# Altium integrated library Xilinx Spartan-II.IntLib: 120 symbols (part 6 of 14)
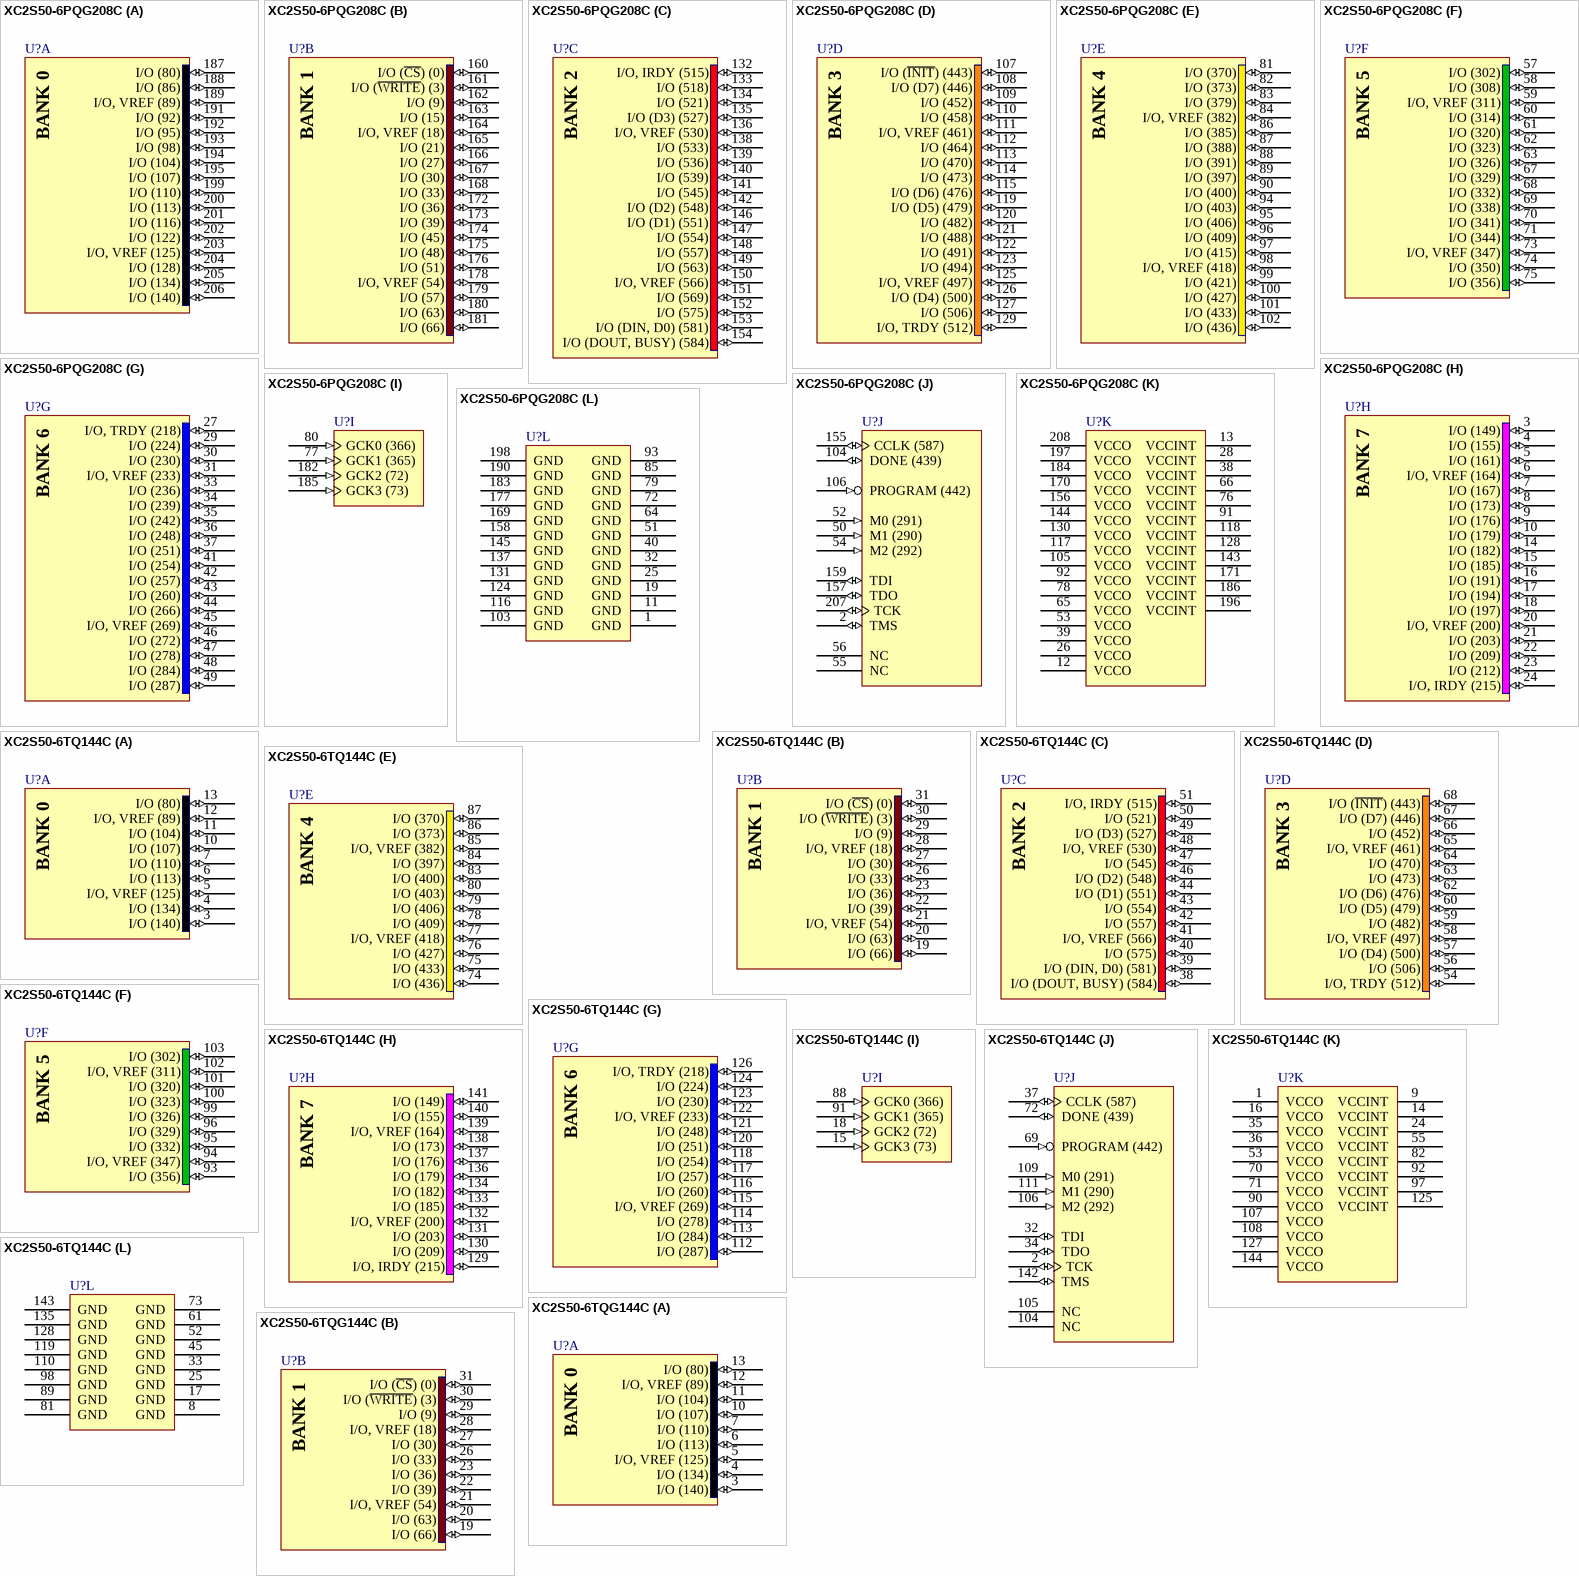
[diagram p76: symbols XC2S50-6PQG208C to XC2S50-6TQG144C]

## XC2S50-6PQG208C
designator U?
Spartan-II 2.5V FPGA, 140 User I/Os, 208-Pin PQFP, Higher Performance, Commercial Grade, Pb-Free; DatasheetVersion: ver2.8, Jun-2008; PackageVersion: ver1.2, Jun-2004; PackageReference: PQG208; PackageDescription: 208-Pin Plastic Quad Flat Pack (PQG208) - Pb-Free; Code_JEDEC: MS-029-FA-1; ComponentLink1Description: Manufacturer URL; ComponentLink1URL: http://www.xilinx.com/; ComponentLink2Description: Spartan-II Datasheet; ComponentLink2URL: http://www.xilinx.com/support/documentation/data_sheets/ds001.pdf; ComponentLink3Description: PQG208 Package Drawing; ComponentLink3URL: http://www.xilinx.com/support/documentation/package_specs/pq208.pdf; ComponentLink4Description: Spartan-II Documents; ComponentLink4URL: http://www.xilinx.com/support/documentation/spartan-ii.htm
footprint PQG208_N (Shrink QFP, 208-Leads, Body 28x28mm, Pitch 0.5mm, IPC Medium Density)
footprint PQG208_L (Shrink QFP, 208-Leads, Body 28x28mm, Pitch 0.5mm, IPC High Density)
footprint PQG208_M (Shrink QFP, 208-Leads, Body 28x28mm, Pitch 0.5mm, IPC Low Density)
part A pins: 187 I/O (80) (io), 188 I/O (86) (io), 189 I/O, VREF (89) (io), 191 I/O (92) (io), 192 I/O (95) (io), 193 I/O (98) (io), 194 I/O (104) (io), 195 I/O (107) (io), 199 I/O (110) (io), 200 I/O (113) (io), 201 I/O (116) (io), 202 I/O (122) (io), 203 I/O, VREF (125) (io), 204 I/O (128) (io), 205 I/O (134) (io), 206 I/O (140) (io)
part B pins: 160 I/O (~{CS}) (0) (io), 161 I/O (~{WRITE}) (3) (io), 162 I/O (9) (io), 163 I/O (15) (io), 164 I/O, VREF (18) (io), 165 I/O (21) (io), 166 I/O (27) (io), 167 I/O (30) (io), 168 I/O (33) (io), 172 I/O (36) (io), 173 I/O (39) (io), 174 I/O (45) (io), 175 I/O (48) (io), 176 I/O (51) (io), 178 I/O, VREF (54) (io), 179 I/O (57) (io), 180 I/O (63) (io), 181 I/O (66) (io)
part C pins: 132 I/O, IRDY (515) (io), 133 I/O (518) (io), 134 I/O (521) (io), 135 I/O (D3) (527) (io), 136 I/O, VREF (530) (io), 138 I/O (533) (io), 139 I/O (536) (io), 140 I/O (539) (io), 141 I/O (545) (io), 142 I/O (D2) (548) (io), 146 I/O (D1) (551) (io), 147 I/O (554) (io), 148 I/O (557) (io), 149 I/O (563) (io), 150 I/O, VREF (566) (io), 151 I/O (569) (io), 152 I/O (575) (io), 153 I/O (DIN, D0) (581) (io), 154 I/O (DOUT, BUSY) (584) (io)
part D pins: 107 I/O (~{INIT}) (443) (io), 108 I/O (D7) (446) (io), 109 I/O (452) (io), 110 I/O (458) (io), 111 I/O, VREF (461) (io), 112 I/O (464) (io), 113 I/O (470) (io), 114 I/O (473) (io), 115 I/O (D6) (476) (io), 119 I/O (D5) (479) (io), 120 I/O (482) (io), 121 I/O (488) (io), 122 I/O (491) (io), 123 I/O (494) (io), 125 I/O, VREF (497) (io), 126 I/O (D4) (500) (io), 127 I/O (506) (io), 129 I/O, TRDY (512) (io)
part E pins: 81 I/O (370) (io), 82 I/O (373) (io), 83 I/O (379) (io), 84 I/O, VREF (382) (io), 86 I/O (385) (io), 87 I/O (388) (io), 88 I/O (391) (io), 89 I/O (397) (io), 90 I/O (400) (io), 94 I/O (403) (io), 95 I/O (406) (io), 96 I/O (409) (io), 97 I/O (415) (io), 98 I/O, VREF (418) (io), 99 I/O (421) (io), 100 I/O (427) (io), 101 I/O (433) (io), 102 I/O (436) (io)
part F pins: 57 I/O (302) (io), 58 I/O (308) (io), 59 I/O, VREF (311) (io), 60 I/O (314) (io), 61 I/O (320) (io), 62 I/O (323) (io), 63 I/O (326) (io), 67 I/O (329) (io), 68 I/O (332) (io), 69 I/O (338) (io), 70 I/O (341) (io), 71 I/O (344) (io), 73 I/O, VREF (347) (io), 74 I/O (350) (io), 75 I/O (356) (io)
part G pins: 27 I/O, TRDY (218) (io), 29 I/O (224) (io), 30 I/O (230) (io), 31 I/O, VREF (233) (io), 33 I/O (236) (io), 34 I/O (239) (io), 35 I/O (242) (io), 36 I/O (248) (io), 37 I/O (251) (io), 41 I/O (254) (io), 42 I/O (257) (io), 43 I/O (260) (io), 44 I/O (266) (io), 45 I/O, VREF (269) (io), 46 I/O (272) (io), 47 I/O (278) (io), 48 I/O (284) (io), 49 I/O (287) (io)
part H pins: 3 I/O (149) (io), 4 I/O (155) (io), 5 I/O (161) (io), 6 I/O, VREF (164) (io), 7 I/O (167) (io), 8 I/O (173) (io), 9 I/O (176) (io), 10 I/O (179) (io), 14 I/O (182) (io), 15 I/O (185) (io), 16 I/O (191) (io), 17 I/O (194) (io), 18 I/O (197) (io), 20 I/O, VREF (200) (io), 21 I/O (203) (io), 22 I/O (209) (io), 23 I/O (212) (io), 24 I/O, IRDY (215) (io)
part I pins: 77 GCK1 (365) (in), 80 GCK0 (366) (in), 182 GCK2 (72) (in), 185 GCK3 (73) (in)
part J pins: 2 TMS (io), 50 M1 (290) (in), 52 M0 (291) (in), 54 M2 (292) (in), 55 NC, 56 NC, 104 DONE (439) (io), 106 PROGRAM (442) (in), 155 CCLK (587) (io), 157 TDO (io), 159 TDI (io), 207 TCK (io)
part K pins: 12 VCCO (power), 13 VCCINT (power), 26 VCCO (power), 28 VCCINT (power), 38 VCCINT (power), 39 VCCO (power), 53 VCCO (power), 65 VCCO (power), 66 VCCINT (power), 76 VCCINT (power), 78 VCCO (power), 91 VCCINT (power), 92 VCCO (power), 105 VCCO (power), 117 VCCO (power), 118 VCCINT (power), 128 VCCINT (power), 130 VCCO (power), 143 VCCINT (power), 144 VCCO (power), 156 VCCO (power), 170 VCCO (power), 171 VCCINT (power), 184 VCCO (power), 186 VCCINT (power), 196 VCCINT (power), 197 VCCO (power), 208 VCCO (power)
part L pins: 1 GND (power), 11 GND (power), 19 GND (power), 25 GND (power), 32 GND (power), 40 GND (power), 51 GND (power), 64 GND (power), 72 GND (power), 79 GND (power), 85 GND (power), 93 GND (power), 103 GND (power), 116 GND (power), 124 GND (power), 131 GND (power), 137 GND (power), 145 GND (power), 158 GND (power), 169 GND (power), 177 GND (power), 183 GND (power), 190 GND (power), 198 GND (power)
part A text: BANK 0
part B text: BANK 1
part C text: BANK 2
part D text: BANK 3
part E text: BANK 4
part F text: BANK 5
part G text: BANK 6
part H text: BANK 7

## XC2S50-6TQ144C
designator U?
Spartan-II 2.5V FPGA, 92 User I/Os, 144-Pin TQFP, Higher Performance, Commercial Grade; DatasheetVersion: ver2.8, Jun-2008; PackageVersion: ver1.2, Jun-2004; PackageReference: TQ144; PackageDescription: 144-Pin Thin Quad Flat Pack (TQ144); Code_JEDEC: MS-026-BFB; ComponentLink1Description: Manufacturer URL; ComponentLink1URL: http://www.xilinx.com/; ComponentLink2Description: Spartan-II Datasheet; ComponentLink2URL: http://www.xilinx.com/support/documentation/data_sheets/ds001.pdf; ComponentLink3Description: TQ144 Package Drawing; ComponentLink3URL: http://www.xilinx.com/support/documentation/package_specs/tq144.pdf; ComponentLink4Description: Spartan-II Documents; ComponentLink4URL: http://www.xilinx.com/support/documentation/spartan-ii.htm
footprint TQ144_N (Thin QFP, 144-Leads, Body 20x20mm, Pitch 0.5mm, IPC Medium Density)
footprint TQ144_L (Thin QFP, 144-Leads, Body 20x20mm, Pitch 0.5mm, IPC High Density)
footprint TQ144_M (Thin QFP, 144-Leads, Body 20x20mm, Pitch 0.5mm, IPC Low Density)
part A pins: 3 I/O (140) (io), 4 I/O (134) (io), 5 I/O, VREF (125) (io), 6 I/O (113) (io), 7 I/O (110) (io), 10 I/O (107) (io), 11 I/O (104) (io), 12 I/O, VREF (89) (io), 13 I/O (80) (io)
part B pins: 19 I/O (66) (io), 20 I/O (63) (io), 21 I/O, VREF (54) (io), 22 I/O (39) (io), 23 I/O (36) (io), 26 I/O (33) (io), 27 I/O (30) (io), 28 I/O, VREF (18) (io), 29 I/O (9) (io), 30 I/O (~{WRITE}) (3) (io), 31 I/O (~{CS}) (0) (io)
part C pins: 38 I/O (DOUT, BUSY) (584) (io), 39 I/O (DIN, D0) (581) (io), 40 I/O (575) (io), 41 I/O, VREF (566) (io), 42 I/O (557) (io), 43 I/O (554) (io), 44 I/O (D1) (551) (io), 46 I/O (D2) (548) (io), 47 I/O (545) (io), 48 I/O, VREF (530) (io), 49 I/O (D3) (527) (io), 50 I/O (521) (io), 51 I/O, IRDY (515) (io)
part D pins: 54 I/O, TRDY (512) (io), 56 I/O (506) (io), 57 I/O (D4) (500) (io), 58 I/O, VREF (497) (io), 59 I/O (482) (io), 60 I/O (D5) (479) (io), 62 I/O (D6) (476) (io), 63 I/O (473) (io), 64 I/O (470) (io), 65 I/O, VREF (461) (io), 66 I/O (452) (io), 67 I/O (D7) (446) (io), 68 I/O (~{INIT}) (443) (io)
part E pins: 74 I/O (436) (io), 75 I/O (433) (io), 76 I/O (427) (io), 77 I/O, VREF (418) (io), 78 I/O (409) (io), 79 I/O (406) (io), 80 I/O (403) (io), 83 I/O (400) (io), 84 I/O (397) (io), 85 I/O, VREF (382) (io), 86 I/O (373) (io), 87 I/O (370) (io)
part F pins: 93 I/O (356) (io), 94 I/O, VREF (347) (io), 95 I/O (332) (io), 96 I/O (329) (io), 99 I/O (326) (io), 100 I/O (323) (io), 101 I/O (320) (io), 102 I/O, VREF (311) (io), 103 I/O (302) (io)
part G pins: 112 I/O (287) (io), 113 I/O (284) (io), 114 I/O (278) (io), 115 I/O, VREF (269) (io), 116 I/O (260) (io), 117 I/O (257) (io), 118 I/O (254) (io), 120 I/O (251) (io), 121 I/O (248) (io), 122 I/O, VREF (233) (io), 123 I/O (230) (io), 124 I/O (224) (io), 126 I/O, TRDY (218) (io)
part H pins: 129 I/O, IRDY (215) (io), 130 I/O (209) (io), 131 I/O (203) (io), 132 I/O, VREF (200) (io), 133 I/O (185) (io), 134 I/O (182) (io), 136 I/O (179) (io), 137 I/O (176) (io), 138 I/O (173) (io), 139 I/O, VREF (164) (io), 140 I/O (155) (io), 141 I/O (149) (io)
part I pins: 15 GCK3 (73) (in), 18 GCK2 (72) (in), 88 GCK0 (366) (in), 91 GCK1 (365) (in)
part J pins: 2 TCK (io), 32 TDI (io), 34 TDO (io), 37 CCLK (587) (io), 69 PROGRAM (442) (in), 72 DONE (439) (io), 104 NC, 105 NC, 106 M2 (292) (in), 109 M0 (291) (in), 111 M1 (290) (in), 142 TMS (io)
part K pins: 1 VCCO (power), 9 VCCINT (power), 14 VCCINT (power), 16 VCCO (power), 24 VCCINT (power), 35 VCCO (power), 36 VCCO (power), 53 VCCO (power), 55 VCCINT (power), 70 VCCO (power), 71 VCCO (power), 82 VCCINT (power), 90 VCCO (power), 92 VCCINT (power), 97 VCCINT (power), 107 VCCO (power), 108 VCCO (power), 125 VCCINT (power), 127 VCCO (power), 144 VCCO (power)
part L pins: 8 GND (power), 17 GND (power), 25 GND (power), 33 GND (power), 45 GND (power), 52 GND (power), 61 GND (power), 73 GND (power), 81 GND (power), 89 GND (power), 98 GND (power), 110 GND (power), 119 GND (power), 128 GND (power), 135 GND (power), 143 GND (power)
part A text: BANK 0
part B text: BANK 1
part C text: BANK 2
part D text: BANK 3
part E text: BANK 4
part F text: BANK 5
part G text: BANK 6
part H text: BANK 7

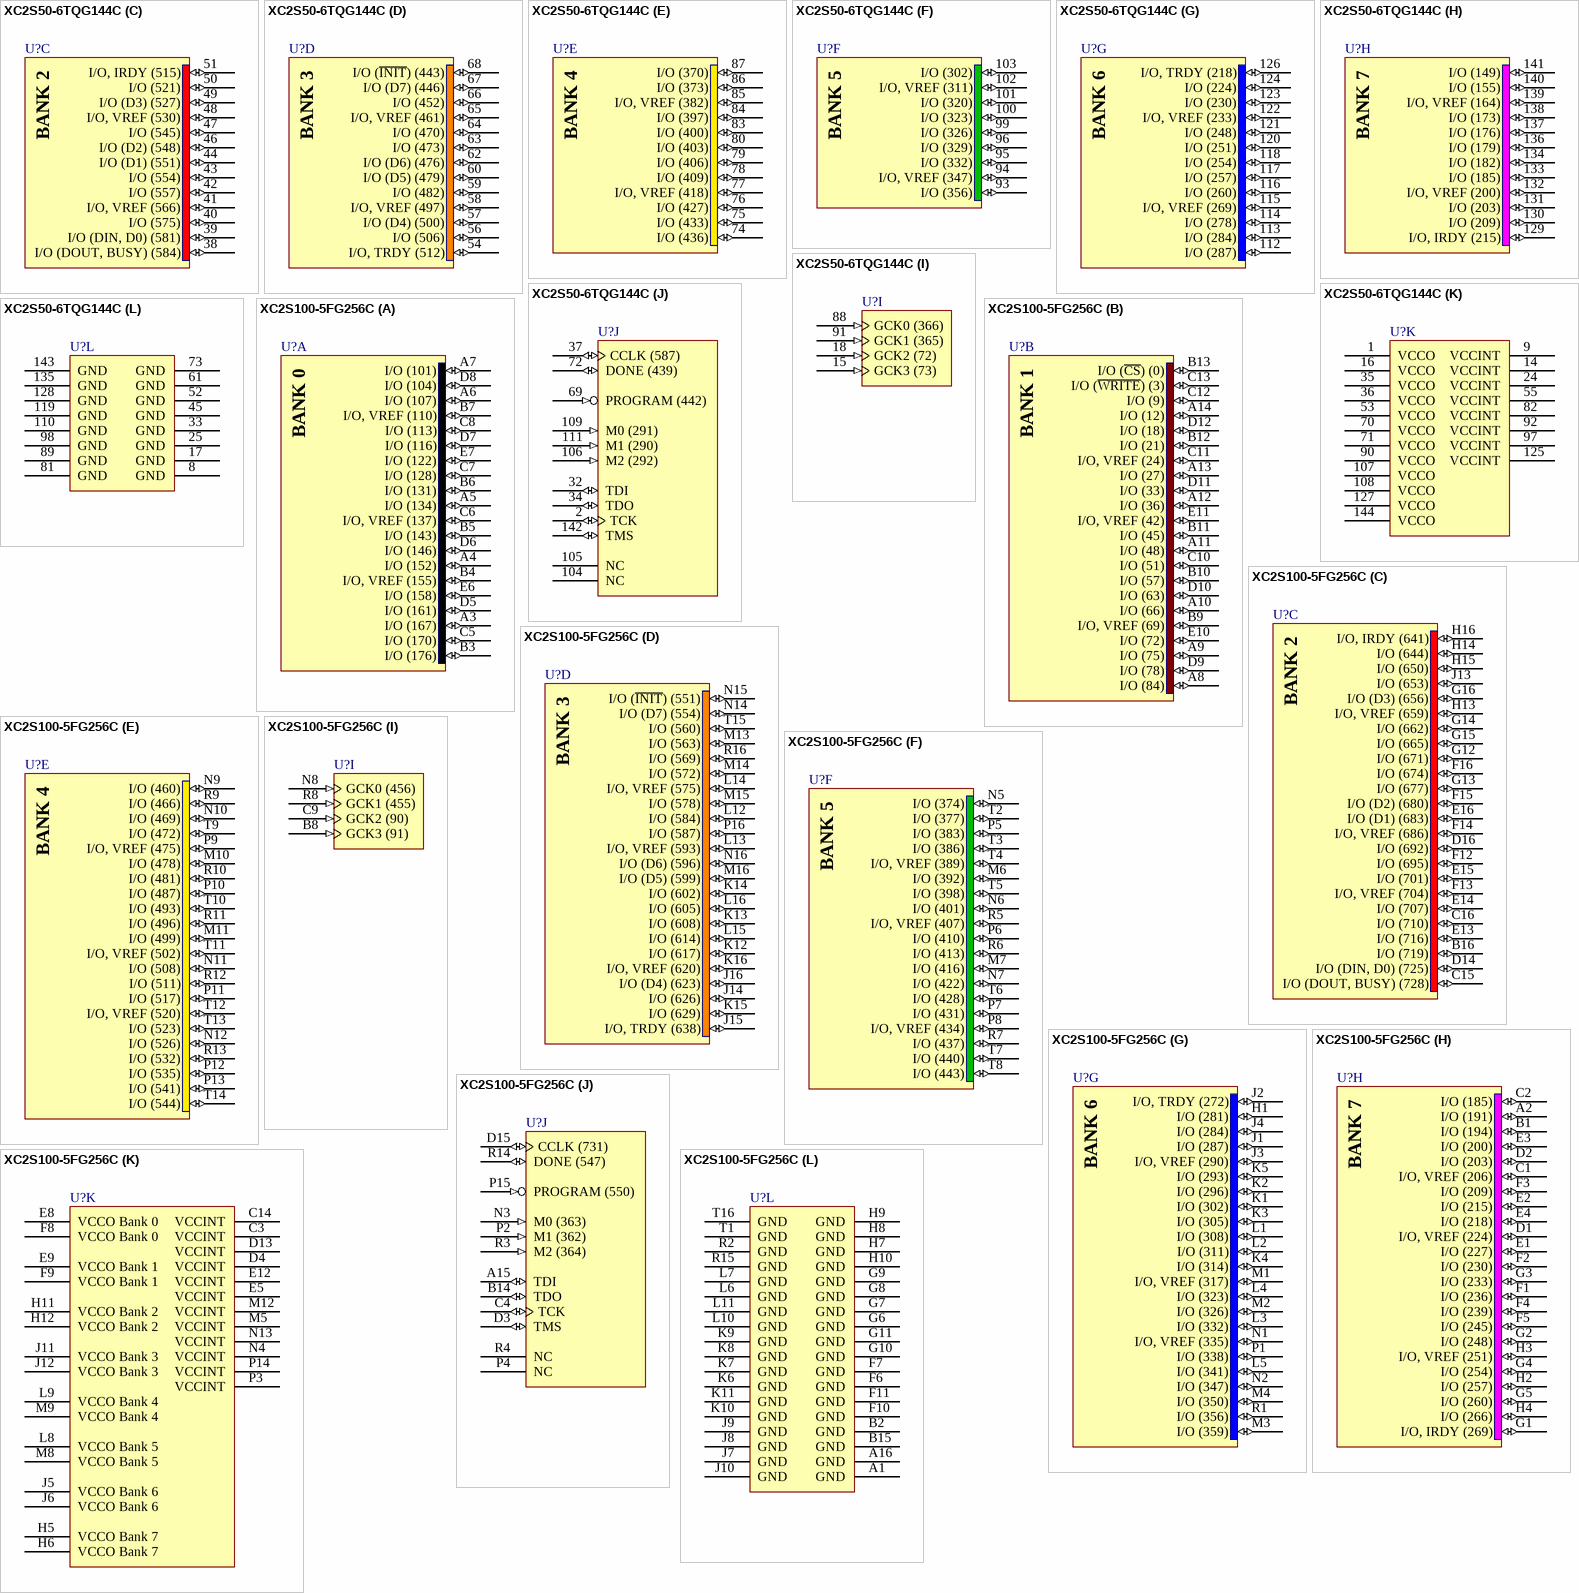
[diagram p27: symbols XC2S50-6TQG144C to XC2S100-5FG256C]

## XC2S50-6TQG144C
designator U?
Spartan-II 2.5V FPGA, 92 User I/Os, 144-Pin TQFP, Higher Performance, Commercial Grade, Pb-Free; DatasheetVersion: ver2.8, Jun-2008; PackageVersion: ver1.2, Jun-2004; PackageReference: TQG144; PackageDescription: 144-Pin Thin Quad Flat Pack (TQG144) - Pb-Free; Code_JEDEC: MS-026-BFB; ComponentLink1Description: Manufacturer URL; ComponentLink1URL: http://www.xilinx.com/; ComponentLink2Description: Spartan-II Datasheet; ComponentLink2URL: http://www.xilinx.com/support/documentation/data_sheets/ds001.pdf; ComponentLink3Description: TQG144 Package Drawing; ComponentLink3URL: http://www.xilinx.com/support/documentation/package_specs/tq144.pdf; ComponentLink4Description: Spartan-II Documents; ComponentLink4URL: http://www.xilinx.com/support/documentation/spartan-ii.htm
footprint TQG144_N (Thin QFP, 144-Leads, Body 20x20mm, Pitch 0.5mm, IPC Medium Density)
footprint TQG144_L (Thin QFP, 144-Leads, Body 20x20mm, Pitch 0.5mm, IPC High Density)
footprint TQG144_M (Thin QFP, 144-Leads, Body 20x20mm, Pitch 0.5mm, IPC Low Density)
part A pins: 3 I/O (140) (io), 4 I/O (134) (io), 5 I/O, VREF (125) (io), 6 I/O (113) (io), 7 I/O (110) (io), 10 I/O (107) (io), 11 I/O (104) (io), 12 I/O, VREF (89) (io), 13 I/O (80) (io)
part B pins: 19 I/O (66) (io), 20 I/O (63) (io), 21 I/O, VREF (54) (io), 22 I/O (39) (io), 23 I/O (36) (io), 26 I/O (33) (io), 27 I/O (30) (io), 28 I/O, VREF (18) (io), 29 I/O (9) (io), 30 I/O (~{WRITE}) (3) (io), 31 I/O (~{CS}) (0) (io)
part C pins: 38 I/O (DOUT, BUSY) (584) (io), 39 I/O (DIN, D0) (581) (io), 40 I/O (575) (io), 41 I/O, VREF (566) (io), 42 I/O (557) (io), 43 I/O (554) (io), 44 I/O (D1) (551) (io), 46 I/O (D2) (548) (io), 47 I/O (545) (io), 48 I/O, VREF (530) (io), 49 I/O (D3) (527) (io), 50 I/O (521) (io), 51 I/O, IRDY (515) (io)
part D pins: 54 I/O, TRDY (512) (io), 56 I/O (506) (io), 57 I/O (D4) (500) (io), 58 I/O, VREF (497) (io), 59 I/O (482) (io), 60 I/O (D5) (479) (io), 62 I/O (D6) (476) (io), 63 I/O (473) (io), 64 I/O (470) (io), 65 I/O, VREF (461) (io), 66 I/O (452) (io), 67 I/O (D7) (446) (io), 68 I/O (~{INIT}) (443) (io)
part E pins: 74 I/O (436) (io), 75 I/O (433) (io), 76 I/O (427) (io), 77 I/O, VREF (418) (io), 78 I/O (409) (io), 79 I/O (406) (io), 80 I/O (403) (io), 83 I/O (400) (io), 84 I/O (397) (io), 85 I/O, VREF (382) (io), 86 I/O (373) (io), 87 I/O (370) (io)
part F pins: 93 I/O (356) (io), 94 I/O, VREF (347) (io), 95 I/O (332) (io), 96 I/O (329) (io), 99 I/O (326) (io), 100 I/O (323) (io), 101 I/O (320) (io), 102 I/O, VREF (311) (io), 103 I/O (302) (io)
part G pins: 112 I/O (287) (io), 113 I/O (284) (io), 114 I/O (278) (io), 115 I/O, VREF (269) (io), 116 I/O (260) (io), 117 I/O (257) (io), 118 I/O (254) (io), 120 I/O (251) (io), 121 I/O (248) (io), 122 I/O, VREF (233) (io), 123 I/O (230) (io), 124 I/O (224) (io), 126 I/O, TRDY (218) (io)
part H pins: 129 I/O, IRDY (215) (io), 130 I/O (209) (io), 131 I/O (203) (io), 132 I/O, VREF (200) (io), 133 I/O (185) (io), 134 I/O (182) (io), 136 I/O (179) (io), 137 I/O (176) (io), 138 I/O (173) (io), 139 I/O, VREF (164) (io), 140 I/O (155) (io), 141 I/O (149) (io)
part I pins: 15 GCK3 (73) (in), 18 GCK2 (72) (in), 88 GCK0 (366) (in), 91 GCK1 (365) (in)
part J pins: 2 TCK (io), 32 TDI (io), 34 TDO (io), 37 CCLK (587) (io), 69 PROGRAM (442) (in), 72 DONE (439) (io), 104 NC, 105 NC, 106 M2 (292) (in), 109 M0 (291) (in), 111 M1 (290) (in), 142 TMS (io)
part K pins: 1 VCCO (power), 9 VCCINT (power), 14 VCCINT (power), 16 VCCO (power), 24 VCCINT (power), 35 VCCO (power), 36 VCCO (power), 53 VCCO (power), 55 VCCINT (power), 70 VCCO (power), 71 VCCO (power), 82 VCCINT (power), 90 VCCO (power), 92 VCCINT (power), 97 VCCINT (power), 107 VCCO (power), 108 VCCO (power), 125 VCCINT (power), 127 VCCO (power), 144 VCCO (power)
part L pins: 8 GND (power), 17 GND (power), 25 GND (power), 33 GND (power), 45 GND (power), 52 GND (power), 61 GND (power), 73 GND (power), 81 GND (power), 89 GND (power), 98 GND (power), 110 GND (power), 119 GND (power), 128 GND (power), 135 GND (power), 143 GND (power)
part A text: BANK 0
part B text: BANK 1
part C text: BANK 2
part D text: BANK 3
part E text: BANK 4
part F text: BANK 5
part G text: BANK 6
part H text: BANK 7

## XC2S100-5FG256C
designator U?
Spartan-II 2.5V FPGA, 176 User I/Os, 256-Ball FBGA, Standard Performance, Commercial Grade; DatasheetVersion: ver2.8, Jun-2008; PackageVersion: ver1.2.1, Apr-2005; PackageReference: FG256; PackageDescription: 256-Ball Fine Pitch Ball Grid Array (FG256); Code_JEDEC: MO-151-AAF-1; Code_IPC: BGA100P16X16-256; ComponentLink1Description: Manufacturer URL; ComponentLink1URL: http://www.xilinx.com/; ComponentLink2Description: Spartan-II Datasheet; ComponentLink2URL: http://www.xilinx.com/support/documentation/data_sheets/ds001.pdf; ComponentLink3Description: FG256 Package Drawing; ComponentLink3URL: http://www.xilinx.com/support/documentation/package_specs/fg256.pdf; ComponentLink4Description: Spartan-II Documents; ComponentLink4URL: http://www.xilinx.com/support/documentation/spartan-ii.htm
footprint FG256 (BGA, 256-Leads, Body 17x17mm, Pitch 1mm)
part A pins: A3 I/O (167) (io), A4 I/O (152) (io), A5 I/O (134) (io), A6 I/O (107) (io), A7 I/O (101) (io), B3 I/O (176) (io), B4 I/O, VREF (155) (io), B5 I/O (143) (io), B6 I/O (131) (io), B7 I/O, VREF (110) (io), C5 I/O (170) (io), C6 I/O, VREF (137) (io), C7 I/O (128) (io), C8 I/O (113) (io), D5 I/O (161) (io), D6 I/O (146) (io), D7 I/O (116) (io), D8 I/O (104) (io), E6 I/O (158) (io), E7 I/O (122) (io)
part B pins: A8 I/O (84) (io), A9 I/O (75) (io), A10 I/O (66) (io), A11 I/O (48) (io), A12 I/O (36) (io), A13 I/O (27) (io), A14 I/O (12) (io), B9 I/O, VREF (69) (io), B10 I/O (57) (io), B11 I/O (45) (io), B12 I/O (21) (io), B13 I/O (~{CS}) (0) (io), C10 I/O (51) (io), C11 I/O, VREF (24) (io), C12 I/O (9) (io), C13 I/O (~{WRITE}) (3) (io), D9 I/O (78) (io), D10 I/O (63) (io), D11 I/O (33) (io), D12 I/O (18) (io), E10 I/O (72) (io), E11 I/O, VREF (42) (io)
part C pins: B16 I/O (719) (io), C15 I/O (DOUT, BUSY) (728) (io), C16 I/O (710) (io), D14 I/O (DIN, D0) (725) (io), D16 I/O (692) (io), E13 I/O (716) (io), E14 I/O (707) (io), E15 I/O (701) (io), E16 I/O (D1) (683) (io), F12 I/O (695) (io), F13 I/O, VREF (704) (io), F14 I/O, VREF (686) (io), F15 I/O (D2) (680) (io), F16 I/O (674) (io), G12 I/O (671) (io), G13 I/O (677) (io), G14 I/O (662) (io), G15 I/O (665) (io), G16 I/O (D3) (656) (io), H13 I/O, VREF (659) (io), H14 I/O (644) (io), H15 I/O (650) (io), H16 I/O, IRDY (641) (io), J13 I/O (653) (io)
part D pins: J14 I/O (626) (io), J15 I/O, TRDY (638) (io), J16 I/O (D4) (623) (io), K12 I/O (617) (io), K13 I/O (608) (io), K14 I/O (602) (io), K15 I/O (629) (io), K16 I/O, VREF (620) (io), L12 I/O (584) (io), L13 I/O, VREF (593) (io), L14 I/O, VREF (575) (io), L15 I/O (614) (io), L16 I/O (605) (io), M13 I/O (563) (io), M14 I/O (572) (io), M15 I/O (578) (io), M16 I/O (D5) (599) (io), N14 I/O (D7) (554) (io), N15 I/O (~{INIT}) (551) (io), N16 I/O (D6) (596) (io), P16 I/O (587) (io), R16 I/O (569) (io), T15 I/O (560) (io)
part E pins: M10 I/O (478) (io), M11 I/O (499) (io), N9 I/O (460) (io), N10 I/O (469) (io), N11 I/O (508) (io), N12 I/O (526) (io), P9 I/O, VREF (475) (io), P10 I/O (487) (io), P11 I/O (517) (io), P12 I/O (535) (io), P13 I/O (541) (io), R9 I/O (466) (io), R10 I/O (481) (io), R11 I/O (496) (io), R12 I/O (511) (io), R13 I/O (532) (io), T9 I/O (472) (io), T10 I/O (493) (io), T11 I/O, VREF (502) (io), T12 I/O, VREF (520) (io), T13 I/O (523) (io), T14 I/O (544) (io)
part F pins: M6 I/O (392) (io), M7 I/O (416) (io), N5 I/O (374) (io), N6 I/O (401) (io), N7 I/O (422) (io), P5 I/O (383) (io), P6 I/O (410) (io), P7 I/O (431) (io), P8 I/O, VREF (434) (io), R5 I/O, VREF (407) (io), R6 I/O (413) (io), R7 I/O (437) (io), T2 I/O (377) (io), T3 I/O (386) (io), T4 I/O, VREF (389) (io), T5 I/O (398) (io), T6 I/O (428) (io), T7 I/O (440) (io), T8 I/O (443) (io)
part G pins: H1 I/O (281) (io), J1 I/O (287) (io), J2 I/O, TRDY (272) (io), J3 I/O, VREF (290) (io), J4 I/O (284) (io), K1 I/O (302) (io), K2 I/O (296) (io), K3 I/O (305) (io), K4 I/O (314) (io), K5 I/O (293) (io), L1 I/O (308) (io), L2 I/O (311) (io), L3 I/O (332) (io), L4 I/O (323) (io), L5 I/O (341) (io), M1 I/O, VREF (317) (io), M2 I/O (326) (io), M3 I/O (359) (io), M4 I/O (350) (io), N1 I/O, VREF (335) (io), N2 I/O (347) (io), P1 I/O (338) (io), R1 I/O (356) (io)
part H pins: A2 I/O (191) (io), B1 I/O (194) (io), C1 I/O, VREF (206) (io), C2 I/O (185) (io), D1 I/O, VREF (224) (io), D2 I/O (203) (io), E1 I/O (227) (io), E2 I/O (215) (io), E3 I/O (200) (io), E4 I/O (218) (io), F1 I/O (236) (io), F2 I/O (230) (io), F3 I/O (209) (io), F4 I/O (239) (io), F5 I/O (245) (io), G1 I/O, IRDY (269) (io), G2 I/O (248) (io), G3 I/O (233) (io), G4 I/O (254) (io), G5 I/O (260) (io), H2 I/O (257) (io), H3 I/O, VREF (251) (io), H4 I/O (266) (io)
part I pins: B8 GCK3 (91) (in), C9 GCK2 (90) (in), N8 GCK0 (456) (in), R8 GCK1 (455) (in)
part J pins: A15 TDI (io), B14 TDO (io), C4 TCK (io), D3 TMS (io), D15 CCLK (731) (io), N3 M0 (363) (in), P2 M1 (362) (in), P4 NC, P15 PROGRAM (550) (in), R3 M2 (364) (in), R4 NC, R14 DONE (547) (io)
part K pins: C3 VCCINT (power), C14 VCCINT (power), D4 VCCINT (power), D13 VCCINT (power), E5 VCCINT (power), E8 VCCO Bank 0 (power), E9 VCCO Bank 1 (power), E12 VCCINT (power), F8 VCCO Bank 0 (power), F9 VCCO Bank 1 (power), H5 VCCO Bank 7 (power), H6 VCCO Bank 7 (power), H11 VCCO Bank 2 (power), H12 VCCO Bank 2 (power), J5 VCCO Bank 6 (power), J6 VCCO Bank 6 (power), J11 VCCO Bank 3 (power), J12 VCCO Bank 3 (power), L8 VCCO Bank 5 (power), L9 VCCO Bank 4 (power), M5 VCCINT (power), M8 VCCO Bank 5 (power), M9 VCCO Bank 4 (power), M12 VCCINT (power), N4 VCCINT (power), N13 VCCINT (power), P3 VCCINT (power), P14 VCCINT (power)
part L pins: A1 GND (power), A16 GND (power), B2 GND (power), B15 GND (power), F6 GND (power), F7 GND (power), F10 GND (power), F11 GND (power), G6 GND (power), G7 GND (power), G8 GND (power), G9 GND (power), G10 GND (power), G11 GND (power), H7 GND (power), H8 GND (power), H9 GND (power), H10 GND (power), J7 GND (power), J8 GND (power), J9 GND (power), J10 GND (power), K6 GND (power), K7 GND (power), K8 GND (power), K9 GND (power), K10 GND (power), K11 GND (power), L6 GND (power), L7 GND (power), L10 GND (power), L11 GND (power), R2 GND (power), R15 GND (power), T1 GND (power), T16 GND (power)
part A text: BANK 0
part B text: BANK 1
part C text: BANK 2
part D text: BANK 3
part E text: BANK 4
part F text: BANK 5
part G text: BANK 6
part H text: BANK 7

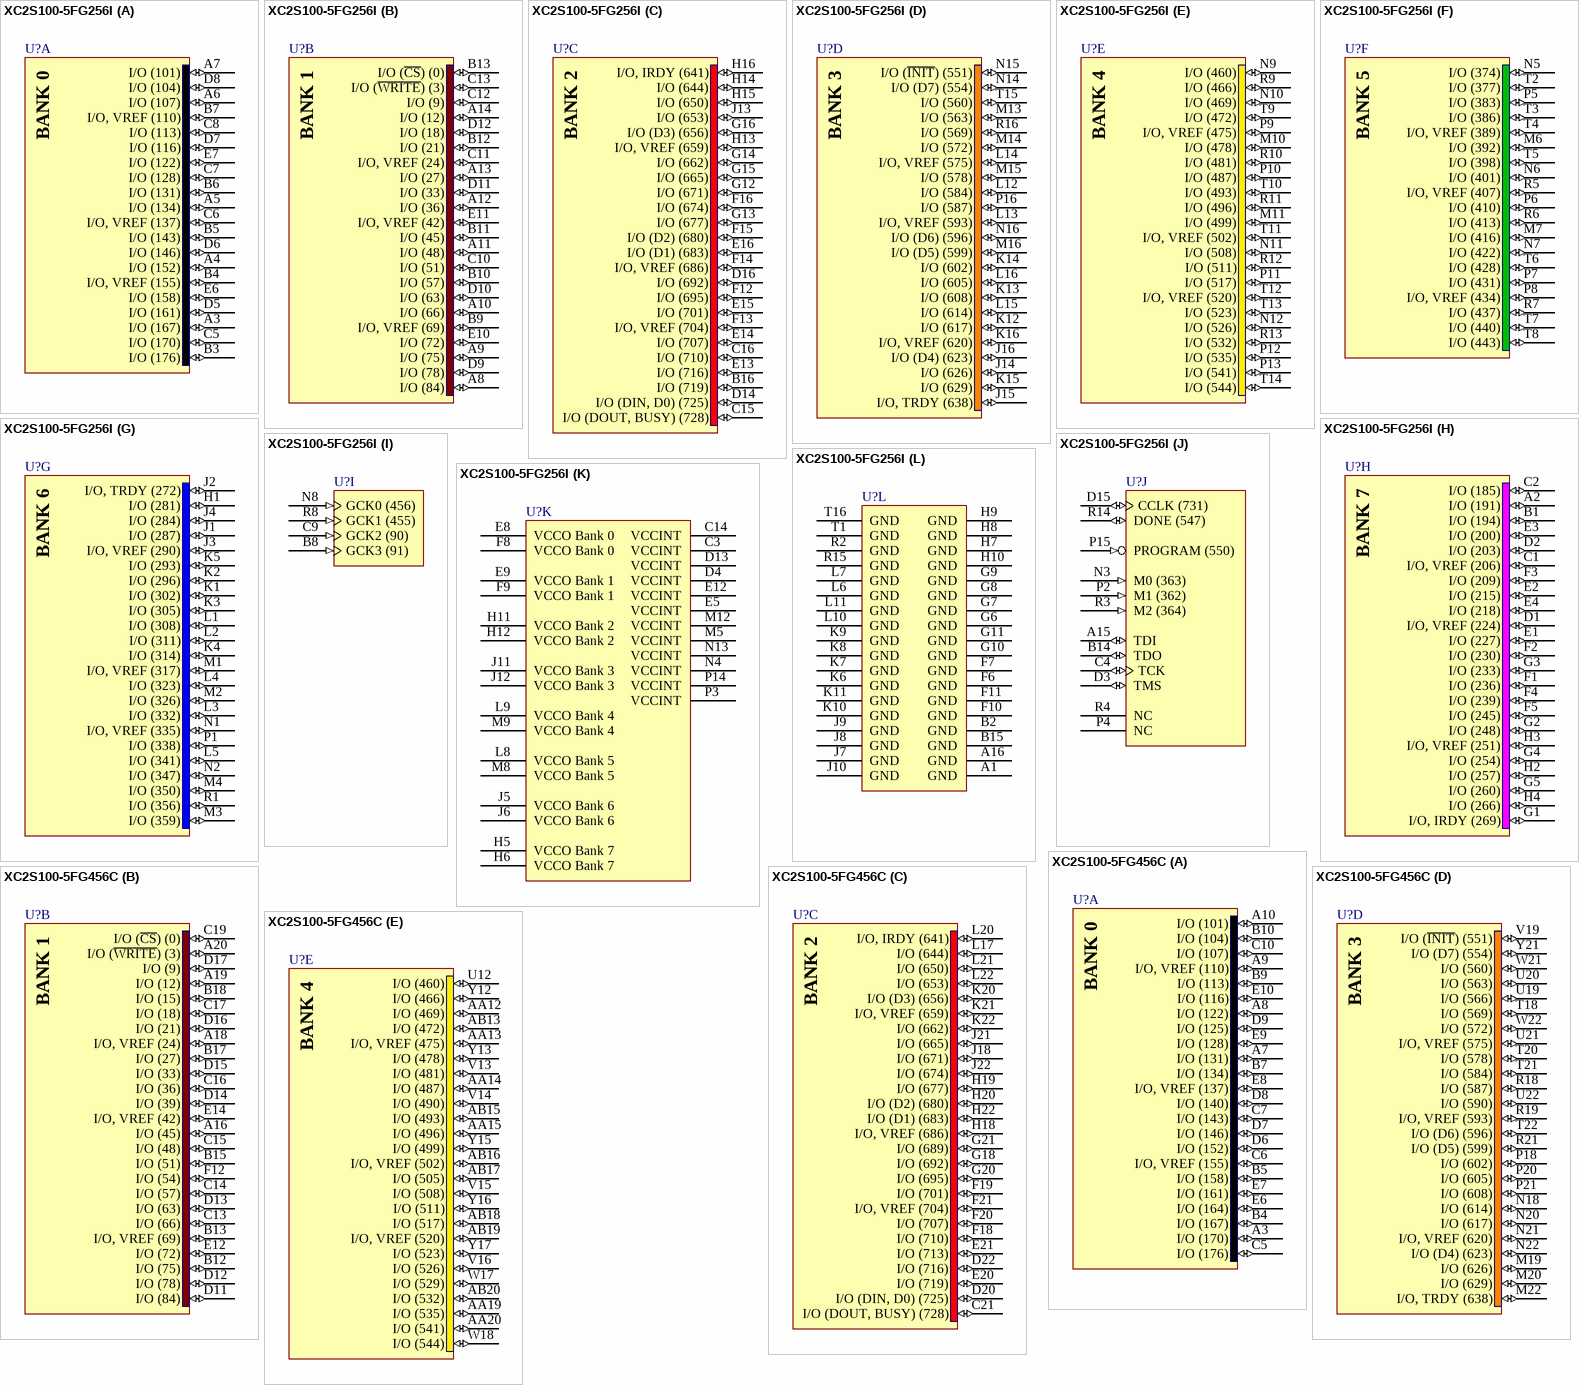
[diagram p28: symbols XC2S100-5FG256I to XC2S100-5FG456C]

## XC2S100-5FG256I
designator U?
Spartan-II 2.5V FPGA, 176 User I/Os, 256-Ball FBGA, Standard Performance, Industrial Grade; DatasheetVersion: ver2.8, Jun-2008; PackageVersion: ver1.2.1, Apr-2005; PackageReference: FG256; PackageDescription: 256-Ball Fine Pitch Ball Grid Array (FG256); Code_JEDEC: MO-151-AAF-1; Code_IPC: BGA100P16X16-256; ComponentLink1Description: Manufacturer URL; ComponentLink1URL: http://www.xilinx.com/; ComponentLink2Description: Spartan-II Datasheet; ComponentLink2URL: http://www.xilinx.com/support/documentation/data_sheets/ds001.pdf; ComponentLink3Description: FG256 Package Drawing; ComponentLink3URL: http://www.xilinx.com/support/documentation/package_specs/fg256.pdf; ComponentLink4Description: Spartan-II Documents; ComponentLink4URL: http://www.xilinx.com/support/documentation/spartan-ii.htm
footprint FG256 (BGA, 256-Leads, Body 17x17mm, Pitch 1mm)
part A pins: A3 I/O (167) (io), A4 I/O (152) (io), A5 I/O (134) (io), A6 I/O (107) (io), A7 I/O (101) (io), B3 I/O (176) (io), B4 I/O, VREF (155) (io), B5 I/O (143) (io), B6 I/O (131) (io), B7 I/O, VREF (110) (io), C5 I/O (170) (io), C6 I/O, VREF (137) (io), C7 I/O (128) (io), C8 I/O (113) (io), D5 I/O (161) (io), D6 I/O (146) (io), D7 I/O (116) (io), D8 I/O (104) (io), E6 I/O (158) (io), E7 I/O (122) (io)
part B pins: A8 I/O (84) (io), A9 I/O (75) (io), A10 I/O (66) (io), A11 I/O (48) (io), A12 I/O (36) (io), A13 I/O (27) (io), A14 I/O (12) (io), B9 I/O, VREF (69) (io), B10 I/O (57) (io), B11 I/O (45) (io), B12 I/O (21) (io), B13 I/O (~{CS}) (0) (io), C10 I/O (51) (io), C11 I/O, VREF (24) (io), C12 I/O (9) (io), C13 I/O (~{WRITE}) (3) (io), D9 I/O (78) (io), D10 I/O (63) (io), D11 I/O (33) (io), D12 I/O (18) (io), E10 I/O (72) (io), E11 I/O, VREF (42) (io)
part C pins: B16 I/O (719) (io), C15 I/O (DOUT, BUSY) (728) (io), C16 I/O (710) (io), D14 I/O (DIN, D0) (725) (io), D16 I/O (692) (io), E13 I/O (716) (io), E14 I/O (707) (io), E15 I/O (701) (io), E16 I/O (D1) (683) (io), F12 I/O (695) (io), F13 I/O, VREF (704) (io), F14 I/O, VREF (686) (io), F15 I/O (D2) (680) (io), F16 I/O (674) (io), G12 I/O (671) (io), G13 I/O (677) (io), G14 I/O (662) (io), G15 I/O (665) (io), G16 I/O (D3) (656) (io), H13 I/O, VREF (659) (io), H14 I/O (644) (io), H15 I/O (650) (io), H16 I/O, IRDY (641) (io), J13 I/O (653) (io)
part D pins: J14 I/O (626) (io), J15 I/O, TRDY (638) (io), J16 I/O (D4) (623) (io), K12 I/O (617) (io), K13 I/O (608) (io), K14 I/O (602) (io), K15 I/O (629) (io), K16 I/O, VREF (620) (io), L12 I/O (584) (io), L13 I/O, VREF (593) (io), L14 I/O, VREF (575) (io), L15 I/O (614) (io), L16 I/O (605) (io), M13 I/O (563) (io), M14 I/O (572) (io), M15 I/O (578) (io), M16 I/O (D5) (599) (io), N14 I/O (D7) (554) (io), N15 I/O (~{INIT}) (551) (io), N16 I/O (D6) (596) (io), P16 I/O (587) (io), R16 I/O (569) (io), T15 I/O (560) (io)
part E pins: M10 I/O (478) (io), M11 I/O (499) (io), N9 I/O (460) (io), N10 I/O (469) (io), N11 I/O (508) (io), N12 I/O (526) (io), P9 I/O, VREF (475) (io), P10 I/O (487) (io), P11 I/O (517) (io), P12 I/O (535) (io), P13 I/O (541) (io), R9 I/O (466) (io), R10 I/O (481) (io), R11 I/O (496) (io), R12 I/O (511) (io), R13 I/O (532) (io), T9 I/O (472) (io), T10 I/O (493) (io), T11 I/O, VREF (502) (io), T12 I/O, VREF (520) (io), T13 I/O (523) (io), T14 I/O (544) (io)
part F pins: M6 I/O (392) (io), M7 I/O (416) (io), N5 I/O (374) (io), N6 I/O (401) (io), N7 I/O (422) (io), P5 I/O (383) (io), P6 I/O (410) (io), P7 I/O (431) (io), P8 I/O, VREF (434) (io), R5 I/O, VREF (407) (io), R6 I/O (413) (io), R7 I/O (437) (io), T2 I/O (377) (io), T3 I/O (386) (io), T4 I/O, VREF (389) (io), T5 I/O (398) (io), T6 I/O (428) (io), T7 I/O (440) (io), T8 I/O (443) (io)
part G pins: H1 I/O (281) (io), J1 I/O (287) (io), J2 I/O, TRDY (272) (io), J3 I/O, VREF (290) (io), J4 I/O (284) (io), K1 I/O (302) (io), K2 I/O (296) (io), K3 I/O (305) (io), K4 I/O (314) (io), K5 I/O (293) (io), L1 I/O (308) (io), L2 I/O (311) (io), L3 I/O (332) (io), L4 I/O (323) (io), L5 I/O (341) (io), M1 I/O, VREF (317) (io), M2 I/O (326) (io), M3 I/O (359) (io), M4 I/O (350) (io), N1 I/O, VREF (335) (io), N2 I/O (347) (io), P1 I/O (338) (io), R1 I/O (356) (io)
part H pins: A2 I/O (191) (io), B1 I/O (194) (io), C1 I/O, VREF (206) (io), C2 I/O (185) (io), D1 I/O, VREF (224) (io), D2 I/O (203) (io), E1 I/O (227) (io), E2 I/O (215) (io), E3 I/O (200) (io), E4 I/O (218) (io), F1 I/O (236) (io), F2 I/O (230) (io), F3 I/O (209) (io), F4 I/O (239) (io), F5 I/O (245) (io), G1 I/O, IRDY (269) (io), G2 I/O (248) (io), G3 I/O (233) (io), G4 I/O (254) (io), G5 I/O (260) (io), H2 I/O (257) (io), H3 I/O, VREF (251) (io), H4 I/O (266) (io)
part I pins: B8 GCK3 (91) (in), C9 GCK2 (90) (in), N8 GCK0 (456) (in), R8 GCK1 (455) (in)
part J pins: A15 TDI (io), B14 TDO (io), C4 TCK (io), D3 TMS (io), D15 CCLK (731) (io), N3 M0 (363) (in), P2 M1 (362) (in), P4 NC, P15 PROGRAM (550) (in), R3 M2 (364) (in), R4 NC, R14 DONE (547) (io)
part K pins: C3 VCCINT (power), C14 VCCINT (power), D4 VCCINT (power), D13 VCCINT (power), E5 VCCINT (power), E8 VCCO Bank 0 (power), E9 VCCO Bank 1 (power), E12 VCCINT (power), F8 VCCO Bank 0 (power), F9 VCCO Bank 1 (power), H5 VCCO Bank 7 (power), H6 VCCO Bank 7 (power), H11 VCCO Bank 2 (power), H12 VCCO Bank 2 (power), J5 VCCO Bank 6 (power), J6 VCCO Bank 6 (power), J11 VCCO Bank 3 (power), J12 VCCO Bank 3 (power), L8 VCCO Bank 5 (power), L9 VCCO Bank 4 (power), M5 VCCINT (power), M8 VCCO Bank 5 (power), M9 VCCO Bank 4 (power), M12 VCCINT (power), N4 VCCINT (power), N13 VCCINT (power), P3 VCCINT (power), P14 VCCINT (power)
part L pins: A1 GND (power), A16 GND (power), B2 GND (power), B15 GND (power), F6 GND (power), F7 GND (power), F10 GND (power), F11 GND (power), G6 GND (power), G7 GND (power), G8 GND (power), G9 GND (power), G10 GND (power), G11 GND (power), H7 GND (power), H8 GND (power), H9 GND (power), H10 GND (power), J7 GND (power), J8 GND (power), J9 GND (power), J10 GND (power), K6 GND (power), K7 GND (power), K8 GND (power), K9 GND (power), K10 GND (power), K11 GND (power), L6 GND (power), L7 GND (power), L10 GND (power), L11 GND (power), R2 GND (power), R15 GND (power), T1 GND (power), T16 GND (power)
part A text: BANK 0
part B text: BANK 1
part C text: BANK 2
part D text: BANK 3
part E text: BANK 4
part F text: BANK 5
part G text: BANK 6
part H text: BANK 7

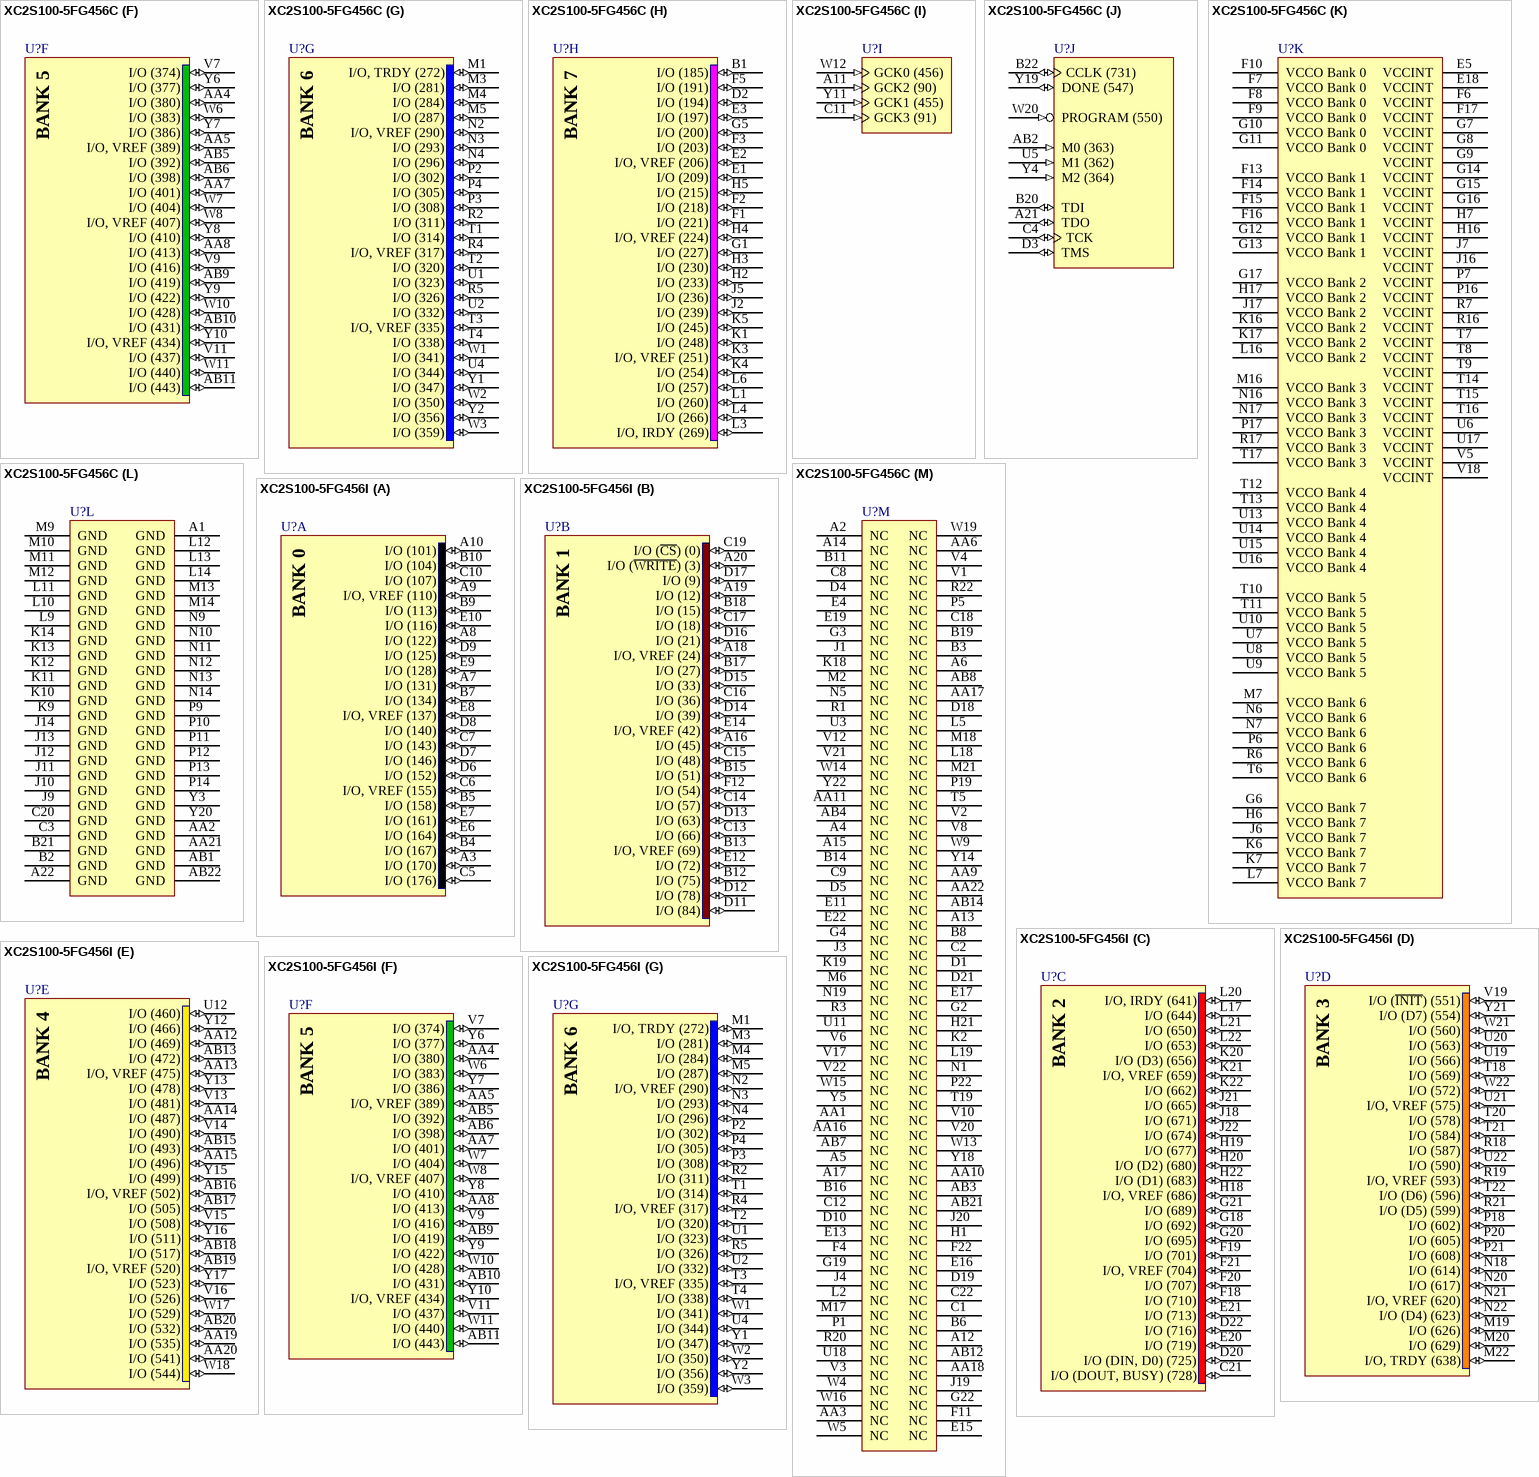
[diagram p29: symbols XC2S100-5FG456C to XC2S100-5FG456I]

## XC2S100-5FG456C
designator U?
Spartan-II 2.5V FPGA, 196 User I/Os, 456-Ball FBGA, Standard Performance, Commercial Grade; DatasheetVersion: ver2.8, Jun-2008; PackageVersion: ver1.2.1, Mar-2005; PackageReference: FG456; PackageDescription: 456-Ball Fine Pitch Ball Grid Array (FG456); Code_JEDEC: MO-151-AAJ-1 (Depopulated); ComponentLink1Description: Manufacturer URL; ComponentLink1URL: http://www.xilinx.com/; ComponentLink2Description: Spartan-II Datasheet; ComponentLink2URL: http://www.xilinx.com/support/documentation/data_sheets/ds001.pdf; ComponentLink3Description: FG456 Package Drawing; ComponentLink3URL: http://www.xilinx.com/support/documentation/package_specs/fg456.pdf; ComponentLink4Description: Spartan-II Documents; ComponentLink4URL: http://www.xilinx.com/support/documentation/spartan-ii.htm
footprint FG456 (BGA, 456-Leads, Body 23x23mm, Pitch 1mm)
part A pins: A3 I/O (170) (io), A7 I/O (131) (io), A8 I/O (122) (io), A9 I/O, VREF (110) (io), A10 I/O (101) (io), B4 I/O (167) (io), B5 I/O (158) (io), B7 I/O (134) (io), B9 I/O (113) (io), B10 I/O (104) (io), C5 I/O (176) (io), C6 I/O, VREF (155) (io), C7 I/O (143) (io), C10 I/O (107) (io), D6 I/O (152) (io), D7 I/O (146) (io), D8 I/O (140) (io), D9 I/O (125) (io), E6 I/O (164) (io), E7 I/O (161) (io), E8 I/O, VREF (137) (io), E9 I/O (128) (io), E10 I/O (116) (io)
part B pins: A16 I/O (45) (io), A18 I/O, VREF (24) (io), A19 I/O (12) (io), A20 I/O (~{WRITE}) (3) (io), B12 I/O (75) (io), B13 I/O, VREF (69) (io), B15 I/O (51) (io), B17 I/O (27) (io), B18 I/O (15) (io), C13 I/O (66) (io), C14 I/O (57) (io), C15 I/O (48) (io), C16 I/O (36) (io), C17 I/O (18) (io), C19 I/O (~{CS}) (0) (io), D11 I/O (84) (io), D12 I/O (78) (io), D13 I/O (63) (io), D14 I/O (39) (io), D15 I/O (33) (io), D16 I/O (21) (io), D17 I/O (9) (io), E12 I/O (72) (io), E14 I/O, VREF (42) (io), F12 I/O (54) (io)
part C pins: C21 I/O (DOUT, BUSY) (728) (io), D20 I/O (DIN, D0) (725) (io), D22 I/O (716) (io), E20 I/O (719) (io), E21 I/O (713) (io), F18 I/O (710) (io), F19 I/O (701) (io), F20 I/O (707) (io), F21 I/O, VREF (704) (io), G18 I/O (692) (io), G20 I/O (695) (io), G21 I/O (689) (io), H18 I/O, VREF (686) (io), H19 I/O (677) (io), H20 I/O (D2) (680) (io), H22 I/O (D1) (683) (io), J18 I/O (671) (io), J21 I/O (665) (io), J22 I/O (674) (io), K20 I/O (D3) (656) (io), K21 I/O, VREF (659) (io), K22 I/O (662) (io), L17 I/O (644) (io), L20 I/O, IRDY (641) (io), L21 I/O (650) (io), L22 I/O (653) (io)
part D pins: M19 I/O (626) (io), M20 I/O (629) (io), M22 I/O, TRDY (638) (io), N18 I/O (614) (io), N20 I/O (617) (io), N21 I/O, VREF (620) (io), N22 I/O (D4) (623) (io), P18 I/O (602) (io), P20 I/O (605) (io), P21 I/O (608) (io), R18 I/O (587) (io), R19 I/O, VREF (593) (io), R21 I/O (D5) (599) (io), T18 I/O (569) (io), T20 I/O (578) (io), T21 I/O (584) (io), T22 I/O (D6) (596) (io), U19 I/O (566) (io), U20 I/O (563) (io), U21 I/O, VREF (575) (io), U22 I/O (590) (io), V19 I/O (~{INIT}) (551) (io), W21 I/O (560) (io), W22 I/O (572) (io), Y21 I/O (D7) (554) (io)
part E pins: AA12 I/O (469) (io), AA13 I/O, VREF (475) (io), AA14 I/O (487) (io), AA15 I/O (496) (io), AA19 I/O (535) (io), AA20 I/O (541) (io), AB13 I/O (472) (io), AB15 I/O (493) (io), AB16 I/O, VREF (502) (io), AB17 I/O (505) (io), AB18 I/O (517) (io), AB19 I/O, VREF (520) (io), AB20 I/O (532) (io), U12 I/O (460) (io), V13 I/O (481) (io), V14 I/O (490) (io), V15 I/O (508) (io), V16 I/O (526) (io), W17 I/O (529) (io), W18 I/O (544) (io), Y12 I/O (466) (io), Y13 I/O (478) (io), Y15 I/O (499) (io), Y16 I/O (511) (io), Y17 I/O (523) (io)
part F pins: AA4 I/O (380) (io), AA5 I/O, VREF (389) (io), AA7 I/O (401) (io), AA8 I/O (413) (io), AB5 I/O (392) (io), AB6 I/O (398) (io), AB9 I/O (419) (io), AB10 I/O (431) (io), AB11 I/O (443) (io), V7 I/O (374) (io), V9 I/O (416) (io), V11 I/O (437) (io), W6 I/O (383) (io), W7 I/O (404) (io), W8 I/O, VREF (407) (io), W10 I/O (428) (io), W11 I/O (440) (io), Y6 I/O (377) (io), Y7 I/O (386) (io), Y8 I/O (410) (io), Y9 I/O (422) (io), Y10 I/O, VREF (434) (io)
part G pins: M1 I/O, TRDY (272) (io), M3 I/O (281) (io), M4 I/O (284) (io), M5 I/O (287) (io), N2 I/O, VREF (290) (io), N3 I/O (293) (io), N4 I/O (296) (io), P2 I/O (302) (io), P3 I/O (308) (io), P4 I/O (305) (io), R2 I/O (311) (io), R4 I/O, VREF (317) (io), R5 I/O (326) (io), T1 I/O (314) (io), T2 I/O (320) (io), T3 I/O, VREF (335) (io), T4 I/O (338) (io), U1 I/O (323) (io), U2 I/O (332) (io), U4 I/O (344) (io), W1 I/O (341) (io), W2 I/O (350) (io), W3 I/O (359) (io), Y1 I/O (347) (io), Y2 I/O (356) (io)
part H pins: B1 I/O (185) (io), D2 I/O (194) (io), E1 I/O (209) (io), E2 I/O, VREF (206) (io), E3 I/O (197) (io), F1 I/O (221) (io), F2 I/O (218) (io), F3 I/O (203) (io), F5 I/O (191) (io), G1 I/O (227) (io), G5 I/O (200) (io), H2 I/O (233) (io), H3 I/O (230) (io), H4 I/O, VREF (224) (io), H5 I/O (215) (io), J2 I/O (239) (io), J5 I/O (236) (io), K1 I/O (248) (io), K3 I/O, VREF (251) (io), K4 I/O (254) (io), K5 I/O (245) (io), L1 I/O (260) (io), L3 I/O, IRDY (269) (io), L4 I/O (266) (io), L6 I/O (257) (io)
part I pins: A11 GCK2 (90) (in), C11 GCK3 (91) (in), W12 GCK0 (456) (in), Y11 GCK1 (455) (in)
part J pins: A21 TDO (io), AB2 M0 (363) (in), B20 TDI (io), B22 CCLK (731) (io), C4 TCK (io), D3 TMS (io), U5 M1 (362) (in), W20 PROGRAM (550) (in), Y4 M2 (364) (in), Y19 DONE (547) (io)
part K pins: E5 VCCINT (power), E18 VCCINT (power), F6 VCCINT (power), F7 VCCO Bank 0 (power), F8 VCCO Bank 0 (power), F9 VCCO Bank 0 (power), F10 VCCO Bank 0 (power), F13 VCCO Bank 1 (power), F14 VCCO Bank 1 (power), F15 VCCO Bank 1 (power), F16 VCCO Bank 1 (power), F17 VCCINT (power), G6 VCCO Bank 7 (power), G7 VCCINT (power), G8 VCCINT (power), G9 VCCINT (power), G10 VCCO Bank 0 (power), G11 VCCO Bank 0 (power), G12 VCCO Bank 1 (power), G13 VCCO Bank 1 (power), G14 VCCINT (power), G15 VCCINT (power), G16 VCCINT (power), G17 VCCO Bank 2 (power), H6 VCCO Bank 7 (power), H7 VCCINT (power), H16 VCCINT (power), H17 VCCO Bank 2 (power), J6 VCCO Bank 7 (power), J7 VCCINT (power), J16 VCCINT (power), J17 VCCO Bank 2 (power), K6 VCCO Bank 7 (power), K7 VCCO Bank 7 (power), K16 VCCO Bank 2 (power), K17 VCCO Bank 2 (power), L7 VCCO Bank 7 (power), L16 VCCO Bank 2 (power), M7 VCCO Bank 6 (power), M16 VCCO Bank 3 (power), N6 VCCO Bank 6 (power), N7 VCCO Bank 6 (power), N16 VCCO Bank 3 (power), N17 VCCO Bank 3 (power), P6 VCCO Bank 6 (power), P7 VCCINT (power), P16 VCCINT (power), P17 VCCO Bank 3 (power), R6 VCCO Bank 6 (power), R7 VCCINT (power), R16 VCCINT (power), R17 VCCO Bank 3 (power), T6 VCCO Bank 6 (power), T7 VCCINT (power), T8 VCCINT (power), T9 VCCINT (power), T10 VCCO Bank 5 (power), T11 VCCO Bank 5 (power), T12 VCCO Bank 4 (power), T13 VCCO Bank 4 (power), T14 VCCINT (power), T15 VCCINT (power), T16 VCCINT (power), T17 VCCO Bank 3 (power), U6 VCCINT (power), U7 VCCO Bank 5 (power), U8 VCCO Bank 5 (power), U9 VCCO Bank 5 (power), U10 VCCO Bank 5 (power), U13 VCCO Bank 4 (power), U14 VCCO Bank 4 (power), U15 VCCO Bank 4 (power), U16 VCCO Bank 4 (power), U17 VCCINT (power), V5 VCCINT (power), V18 VCCINT (power)
part L pins: A1 GND (power), A22 GND (power), AA2 GND (power), AA21 GND (power), AB1 GND (power), AB22 GND (power), B2 GND (power), B21 GND (power), C3 GND (power), C20 GND (power), J9 GND (power), J10 GND (power), J11 GND (power), J12 GND (power), J13 GND (power), J14 GND (power), K9 GND (power), K10 GND (power), K11 GND (power), K12 GND (power), K13 GND (power), K14 GND (power), L9 GND (power), L10 GND (power), L11 GND (power), L12 GND (power), L13 GND (power), L14 GND (power), M9 GND (power), M10 GND (power), M11 GND (power), M12 GND (power), M13 GND (power), M14 GND (power), N9 GND (power), N10 GND (power), N11 GND (power), N12 GND (power), N13 GND (power), N14 GND (power), P9 GND (power), P10 GND (power), P11 GND (power), P12 GND (power), P13 GND (power), P14 GND (power), Y3 GND (power), Y20 GND (power)
part M pins: A2 NC, A4 NC, A5 NC, A6 NC, A12 NC, A13 NC, A14 NC, A15 NC, A17 NC, AA1 NC, AA3 NC, AA6 NC, AA9 NC, AA10 NC, AA11 NC, AA16 NC, AA17 NC, AA18 NC, AA22 NC, AB3 NC, AB4 NC, AB7 NC, AB8 NC, AB12 NC, AB14 NC, AB21 NC, B3 NC, B6 NC, B8 NC, B11 NC, B14 NC, B16 NC, B19 NC, C1 NC, C2 NC, C8 NC, C9 NC, C12 NC, C18 NC, C22 NC, D1 NC, D4 NC, D5 NC, D10 NC, D18 NC, D19 NC, D21 NC, E4 NC, E11 NC, E13 NC, E15 NC, E16 NC, E17 NC, E19 NC, E22 NC, F4 NC, F11 NC, F22 NC, G2 NC, G3 NC, G4 NC, G19 NC, G22 NC, H1 NC, H21 NC, J1 NC, J3 NC, J4 NC, J19 NC, J20 NC, K2 NC, K18 NC, K19 NC, L2 NC, L5 NC, L18 NC, L19 NC, M2 NC, M6 NC, M17 NC, M18 NC, M21 NC, N1 NC, N5 NC, N19 NC, P1 NC, P5 NC, P19 NC, P22 NC, R1 NC, R3 NC, R20 NC, R22 NC, T5 NC, T19 NC, U3 NC, U11 NC, U18 NC, V1 NC, V2 NC, V3 NC, V4 NC, V6 NC, V8 NC, V10 NC, V12 NC, V17 NC, V20 NC, V21 NC, V22 NC, W4 NC, W5 NC, W9 NC, W13 NC, W14 NC, W15 NC, W16 NC, W19 NC, Y5 NC, Y14 NC, Y18 NC, Y22 NC
part A text: BANK 0
part B text: BANK 1
part C text: BANK 2
part D text: BANK 3
part E text: BANK 4
part F text: BANK 5
part G text: BANK 6
part H text: BANK 7

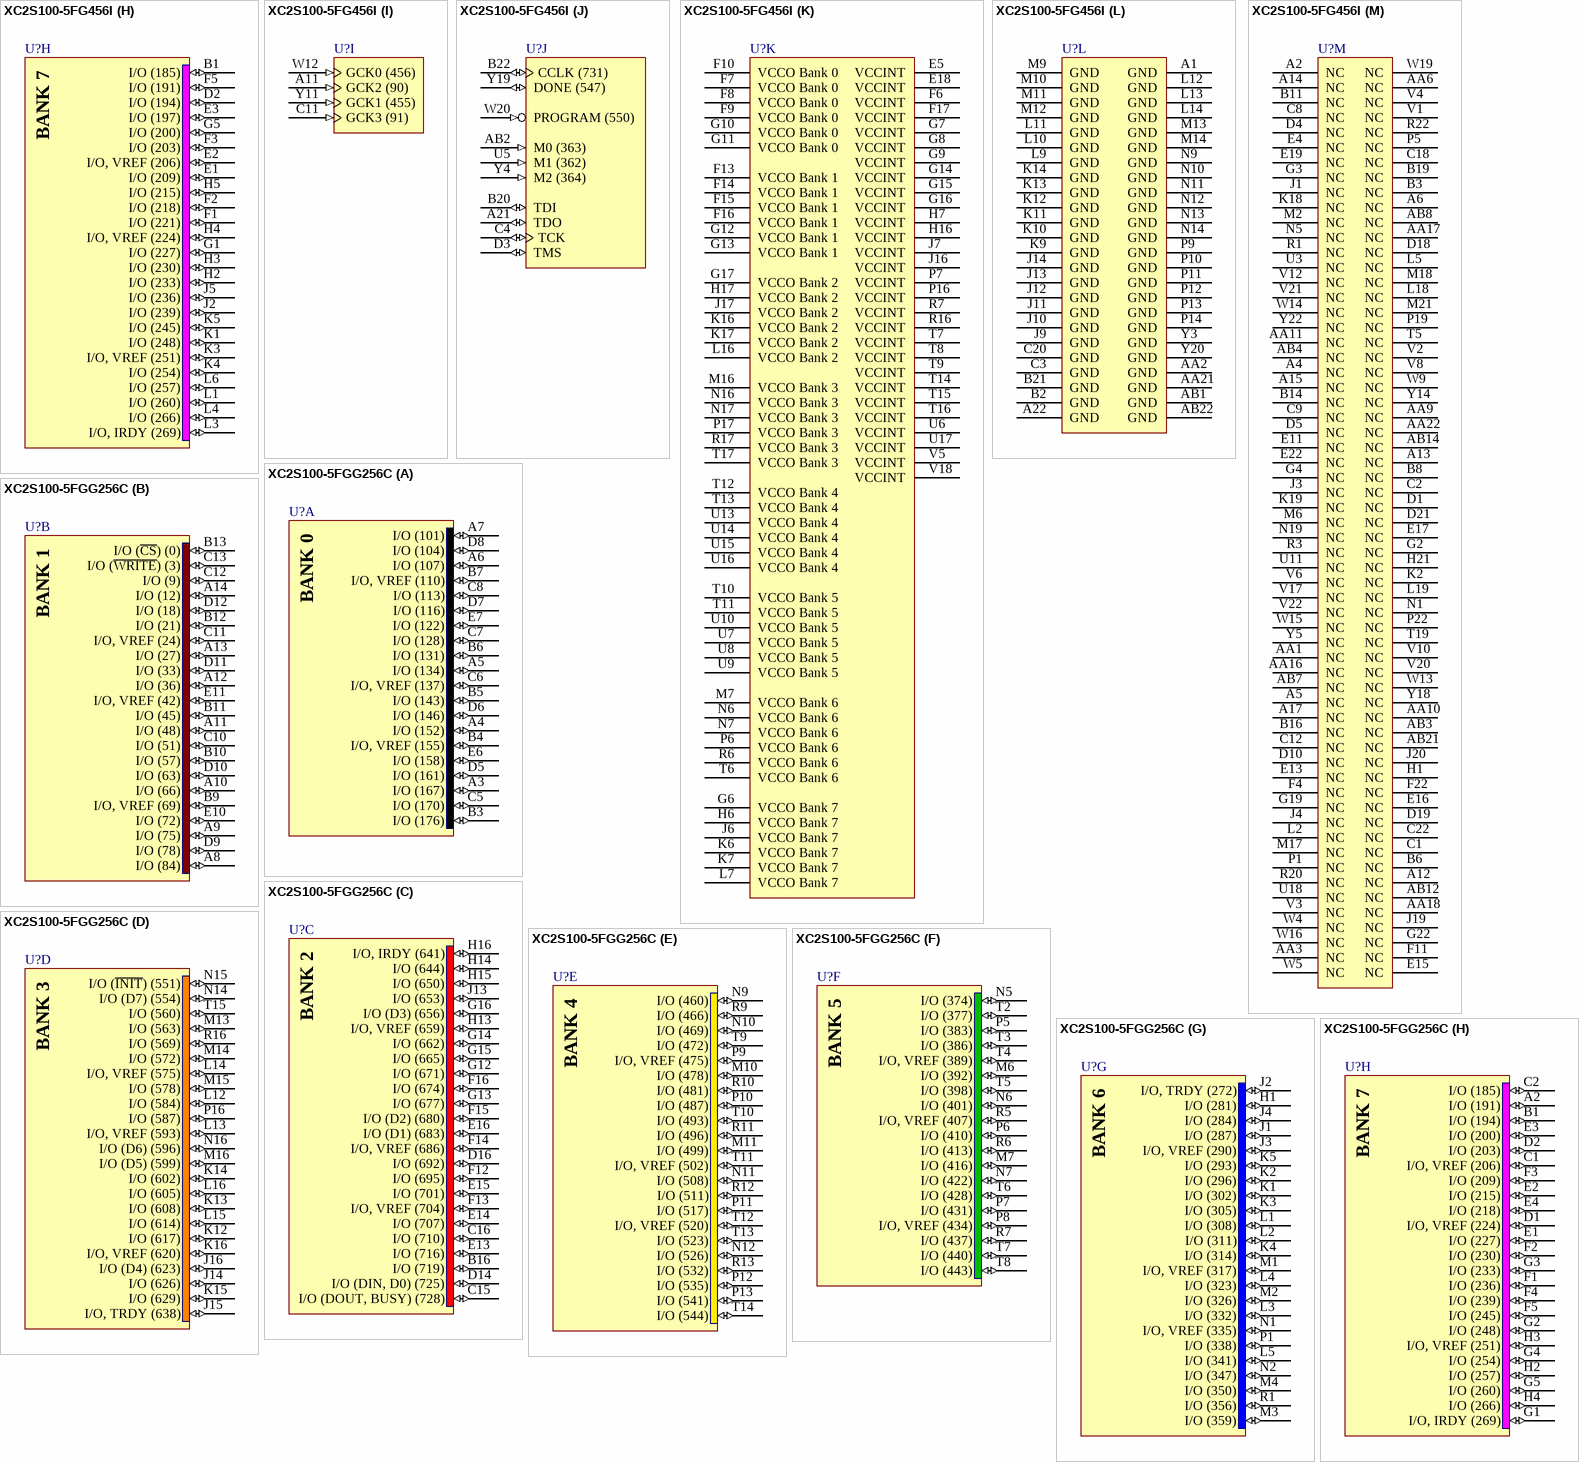
[diagram p30: symbols XC2S100-5FG456I to XC2S100-5FGG256C]

## XC2S100-5FG456I
designator U?
Spartan-II 2.5V FPGA, 196 User I/Os, 456-Ball FBGA, Standard Performance, Industrial Grade; DatasheetVersion: ver2.8, Jun-2008; PackageVersion: ver1.2.1, Mar-2005; PackageReference: FG456; PackageDescription: 456-Ball Fine Pitch Ball Grid Array (FG456); Code_JEDEC: MO-151-AAJ-1 (Depopulated); ComponentLink1Description: Manufacturer URL; ComponentLink1URL: http://www.xilinx.com/; ComponentLink2Description: Spartan-II Datasheet; ComponentLink2URL: http://www.xilinx.com/support/documentation/data_sheets/ds001.pdf; ComponentLink3Description: FG456 Package Drawing; ComponentLink3URL: http://www.xilinx.com/support/documentation/package_specs/fg456.pdf; ComponentLink4Description: Spartan-II Documents; ComponentLink4URL: http://www.xilinx.com/support/documentation/spartan-ii.htm
footprint FG456 (BGA, 456-Leads, Body 23x23mm, Pitch 1mm)
part A pins: A3 I/O (170) (io), A7 I/O (131) (io), A8 I/O (122) (io), A9 I/O, VREF (110) (io), A10 I/O (101) (io), B4 I/O (167) (io), B5 I/O (158) (io), B7 I/O (134) (io), B9 I/O (113) (io), B10 I/O (104) (io), C5 I/O (176) (io), C6 I/O, VREF (155) (io), C7 I/O (143) (io), C10 I/O (107) (io), D6 I/O (152) (io), D7 I/O (146) (io), D8 I/O (140) (io), D9 I/O (125) (io), E6 I/O (164) (io), E7 I/O (161) (io), E8 I/O, VREF (137) (io), E9 I/O (128) (io), E10 I/O (116) (io)
part B pins: A16 I/O (45) (io), A18 I/O, VREF (24) (io), A19 I/O (12) (io), A20 I/O (~{WRITE}) (3) (io), B12 I/O (75) (io), B13 I/O, VREF (69) (io), B15 I/O (51) (io), B17 I/O (27) (io), B18 I/O (15) (io), C13 I/O (66) (io), C14 I/O (57) (io), C15 I/O (48) (io), C16 I/O (36) (io), C17 I/O (18) (io), C19 I/O (~{CS}) (0) (io), D11 I/O (84) (io), D12 I/O (78) (io), D13 I/O (63) (io), D14 I/O (39) (io), D15 I/O (33) (io), D16 I/O (21) (io), D17 I/O (9) (io), E12 I/O (72) (io), E14 I/O, VREF (42) (io), F12 I/O (54) (io)
part C pins: C21 I/O (DOUT, BUSY) (728) (io), D20 I/O (DIN, D0) (725) (io), D22 I/O (716) (io), E20 I/O (719) (io), E21 I/O (713) (io), F18 I/O (710) (io), F19 I/O (701) (io), F20 I/O (707) (io), F21 I/O, VREF (704) (io), G18 I/O (692) (io), G20 I/O (695) (io), G21 I/O (689) (io), H18 I/O, VREF (686) (io), H19 I/O (677) (io), H20 I/O (D2) (680) (io), H22 I/O (D1) (683) (io), J18 I/O (671) (io), J21 I/O (665) (io), J22 I/O (674) (io), K20 I/O (D3) (656) (io), K21 I/O, VREF (659) (io), K22 I/O (662) (io), L17 I/O (644) (io), L20 I/O, IRDY (641) (io), L21 I/O (650) (io), L22 I/O (653) (io)
part D pins: M19 I/O (626) (io), M20 I/O (629) (io), M22 I/O, TRDY (638) (io), N18 I/O (614) (io), N20 I/O (617) (io), N21 I/O, VREF (620) (io), N22 I/O (D4) (623) (io), P18 I/O (602) (io), P20 I/O (605) (io), P21 I/O (608) (io), R18 I/O (587) (io), R19 I/O, VREF (593) (io), R21 I/O (D5) (599) (io), T18 I/O (569) (io), T20 I/O (578) (io), T21 I/O (584) (io), T22 I/O (D6) (596) (io), U19 I/O (566) (io), U20 I/O (563) (io), U21 I/O, VREF (575) (io), U22 I/O (590) (io), V19 I/O (~{INIT}) (551) (io), W21 I/O (560) (io), W22 I/O (572) (io), Y21 I/O (D7) (554) (io)
part E pins: AA12 I/O (469) (io), AA13 I/O, VREF (475) (io), AA14 I/O (487) (io), AA15 I/O (496) (io), AA19 I/O (535) (io), AA20 I/O (541) (io), AB13 I/O (472) (io), AB15 I/O (493) (io), AB16 I/O, VREF (502) (io), AB17 I/O (505) (io), AB18 I/O (517) (io), AB19 I/O, VREF (520) (io), AB20 I/O (532) (io), U12 I/O (460) (io), V13 I/O (481) (io), V14 I/O (490) (io), V15 I/O (508) (io), V16 I/O (526) (io), W17 I/O (529) (io), W18 I/O (544) (io), Y12 I/O (466) (io), Y13 I/O (478) (io), Y15 I/O (499) (io), Y16 I/O (511) (io), Y17 I/O (523) (io)
part F pins: AA4 I/O (380) (io), AA5 I/O, VREF (389) (io), AA7 I/O (401) (io), AA8 I/O (413) (io), AB5 I/O (392) (io), AB6 I/O (398) (io), AB9 I/O (419) (io), AB10 I/O (431) (io), AB11 I/O (443) (io), V7 I/O (374) (io), V9 I/O (416) (io), V11 I/O (437) (io), W6 I/O (383) (io), W7 I/O (404) (io), W8 I/O, VREF (407) (io), W10 I/O (428) (io), W11 I/O (440) (io), Y6 I/O (377) (io), Y7 I/O (386) (io), Y8 I/O (410) (io), Y9 I/O (422) (io), Y10 I/O, VREF (434) (io)
part G pins: M1 I/O, TRDY (272) (io), M3 I/O (281) (io), M4 I/O (284) (io), M5 I/O (287) (io), N2 I/O, VREF (290) (io), N3 I/O (293) (io), N4 I/O (296) (io), P2 I/O (302) (io), P3 I/O (308) (io), P4 I/O (305) (io), R2 I/O (311) (io), R4 I/O, VREF (317) (io), R5 I/O (326) (io), T1 I/O (314) (io), T2 I/O (320) (io), T3 I/O, VREF (335) (io), T4 I/O (338) (io), U1 I/O (323) (io), U2 I/O (332) (io), U4 I/O (344) (io), W1 I/O (341) (io), W2 I/O (350) (io), W3 I/O (359) (io), Y1 I/O (347) (io), Y2 I/O (356) (io)
part H pins: B1 I/O (185) (io), D2 I/O (194) (io), E1 I/O (209) (io), E2 I/O, VREF (206) (io), E3 I/O (197) (io), F1 I/O (221) (io), F2 I/O (218) (io), F3 I/O (203) (io), F5 I/O (191) (io), G1 I/O (227) (io), G5 I/O (200) (io), H2 I/O (233) (io), H3 I/O (230) (io), H4 I/O, VREF (224) (io), H5 I/O (215) (io), J2 I/O (239) (io), J5 I/O (236) (io), K1 I/O (248) (io), K3 I/O, VREF (251) (io), K4 I/O (254) (io), K5 I/O (245) (io), L1 I/O (260) (io), L3 I/O, IRDY (269) (io), L4 I/O (266) (io), L6 I/O (257) (io)
part I pins: A11 GCK2 (90) (in), C11 GCK3 (91) (in), W12 GCK0 (456) (in), Y11 GCK1 (455) (in)
part J pins: A21 TDO (io), AB2 M0 (363) (in), B20 TDI (io), B22 CCLK (731) (io), C4 TCK (io), D3 TMS (io), U5 M1 (362) (in), W20 PROGRAM (550) (in), Y4 M2 (364) (in), Y19 DONE (547) (io)
part K pins: E5 VCCINT (power), E18 VCCINT (power), F6 VCCINT (power), F7 VCCO Bank 0 (power), F8 VCCO Bank 0 (power), F9 VCCO Bank 0 (power), F10 VCCO Bank 0 (power), F13 VCCO Bank 1 (power), F14 VCCO Bank 1 (power), F15 VCCO Bank 1 (power), F16 VCCO Bank 1 (power), F17 VCCINT (power), G6 VCCO Bank 7 (power), G7 VCCINT (power), G8 VCCINT (power), G9 VCCINT (power), G10 VCCO Bank 0 (power), G11 VCCO Bank 0 (power), G12 VCCO Bank 1 (power), G13 VCCO Bank 1 (power), G14 VCCINT (power), G15 VCCINT (power), G16 VCCINT (power), G17 VCCO Bank 2 (power), H6 VCCO Bank 7 (power), H7 VCCINT (power), H16 VCCINT (power), H17 VCCO Bank 2 (power), J6 VCCO Bank 7 (power), J7 VCCINT (power), J16 VCCINT (power), J17 VCCO Bank 2 (power), K6 VCCO Bank 7 (power), K7 VCCO Bank 7 (power), K16 VCCO Bank 2 (power), K17 VCCO Bank 2 (power), L7 VCCO Bank 7 (power), L16 VCCO Bank 2 (power), M7 VCCO Bank 6 (power), M16 VCCO Bank 3 (power), N6 VCCO Bank 6 (power), N7 VCCO Bank 6 (power), N16 VCCO Bank 3 (power), N17 VCCO Bank 3 (power), P6 VCCO Bank 6 (power), P7 VCCINT (power), P16 VCCINT (power), P17 VCCO Bank 3 (power), R6 VCCO Bank 6 (power), R7 VCCINT (power), R16 VCCINT (power), R17 VCCO Bank 3 (power), T6 VCCO Bank 6 (power), T7 VCCINT (power), T8 VCCINT (power), T9 VCCINT (power), T10 VCCO Bank 5 (power), T11 VCCO Bank 5 (power), T12 VCCO Bank 4 (power), T13 VCCO Bank 4 (power), T14 VCCINT (power), T15 VCCINT (power), T16 VCCINT (power), T17 VCCO Bank 3 (power), U6 VCCINT (power), U7 VCCO Bank 5 (power), U8 VCCO Bank 5 (power), U9 VCCO Bank 5 (power), U10 VCCO Bank 5 (power), U13 VCCO Bank 4 (power), U14 VCCO Bank 4 (power), U15 VCCO Bank 4 (power), U16 VCCO Bank 4 (power), U17 VCCINT (power), V5 VCCINT (power), V18 VCCINT (power)
part L pins: A1 GND (power), A22 GND (power), AA2 GND (power), AA21 GND (power), AB1 GND (power), AB22 GND (power), B2 GND (power), B21 GND (power), C3 GND (power), C20 GND (power), J9 GND (power), J10 GND (power), J11 GND (power), J12 GND (power), J13 GND (power), J14 GND (power), K9 GND (power), K10 GND (power), K11 GND (power), K12 GND (power), K13 GND (power), K14 GND (power), L9 GND (power), L10 GND (power), L11 GND (power), L12 GND (power), L13 GND (power), L14 GND (power), M9 GND (power), M10 GND (power), M11 GND (power), M12 GND (power), M13 GND (power), M14 GND (power), N9 GND (power), N10 GND (power), N11 GND (power), N12 GND (power), N13 GND (power), N14 GND (power), P9 GND (power), P10 GND (power), P11 GND (power), P12 GND (power), P13 GND (power), P14 GND (power), Y3 GND (power), Y20 GND (power)
part M pins: A2 NC, A4 NC, A5 NC, A6 NC, A12 NC, A13 NC, A14 NC, A15 NC, A17 NC, AA1 NC, AA3 NC, AA6 NC, AA9 NC, AA10 NC, AA11 NC, AA16 NC, AA17 NC, AA18 NC, AA22 NC, AB3 NC, AB4 NC, AB7 NC, AB8 NC, AB12 NC, AB14 NC, AB21 NC, B3 NC, B6 NC, B8 NC, B11 NC, B14 NC, B16 NC, B19 NC, C1 NC, C2 NC, C8 NC, C9 NC, C12 NC, C18 NC, C22 NC, D1 NC, D4 NC, D5 NC, D10 NC, D18 NC, D19 NC, D21 NC, E4 NC, E11 NC, E13 NC, E15 NC, E16 NC, E17 NC, E19 NC, E22 NC, F4 NC, F11 NC, F22 NC, G2 NC, G3 NC, G4 NC, G19 NC, G22 NC, H1 NC, H21 NC, J1 NC, J3 NC, J4 NC, J19 NC, J20 NC, K2 NC, K18 NC, K19 NC, L2 NC, L5 NC, L18 NC, L19 NC, M2 NC, M6 NC, M17 NC, M18 NC, M21 NC, N1 NC, N5 NC, N19 NC, P1 NC, P5 NC, P19 NC, P22 NC, R1 NC, R3 NC, R20 NC, R22 NC, T5 NC, T19 NC, U3 NC, U11 NC, U18 NC, V1 NC, V2 NC, V3 NC, V4 NC, V6 NC, V8 NC, V10 NC, V12 NC, V17 NC, V20 NC, V21 NC, V22 NC, W4 NC, W5 NC, W9 NC, W13 NC, W14 NC, W15 NC, W16 NC, W19 NC, Y5 NC, Y14 NC, Y18 NC, Y22 NC
part A text: BANK 0
part B text: BANK 1
part C text: BANK 2
part D text: BANK 3
part E text: BANK 4
part F text: BANK 5
part G text: BANK 6
part H text: BANK 7

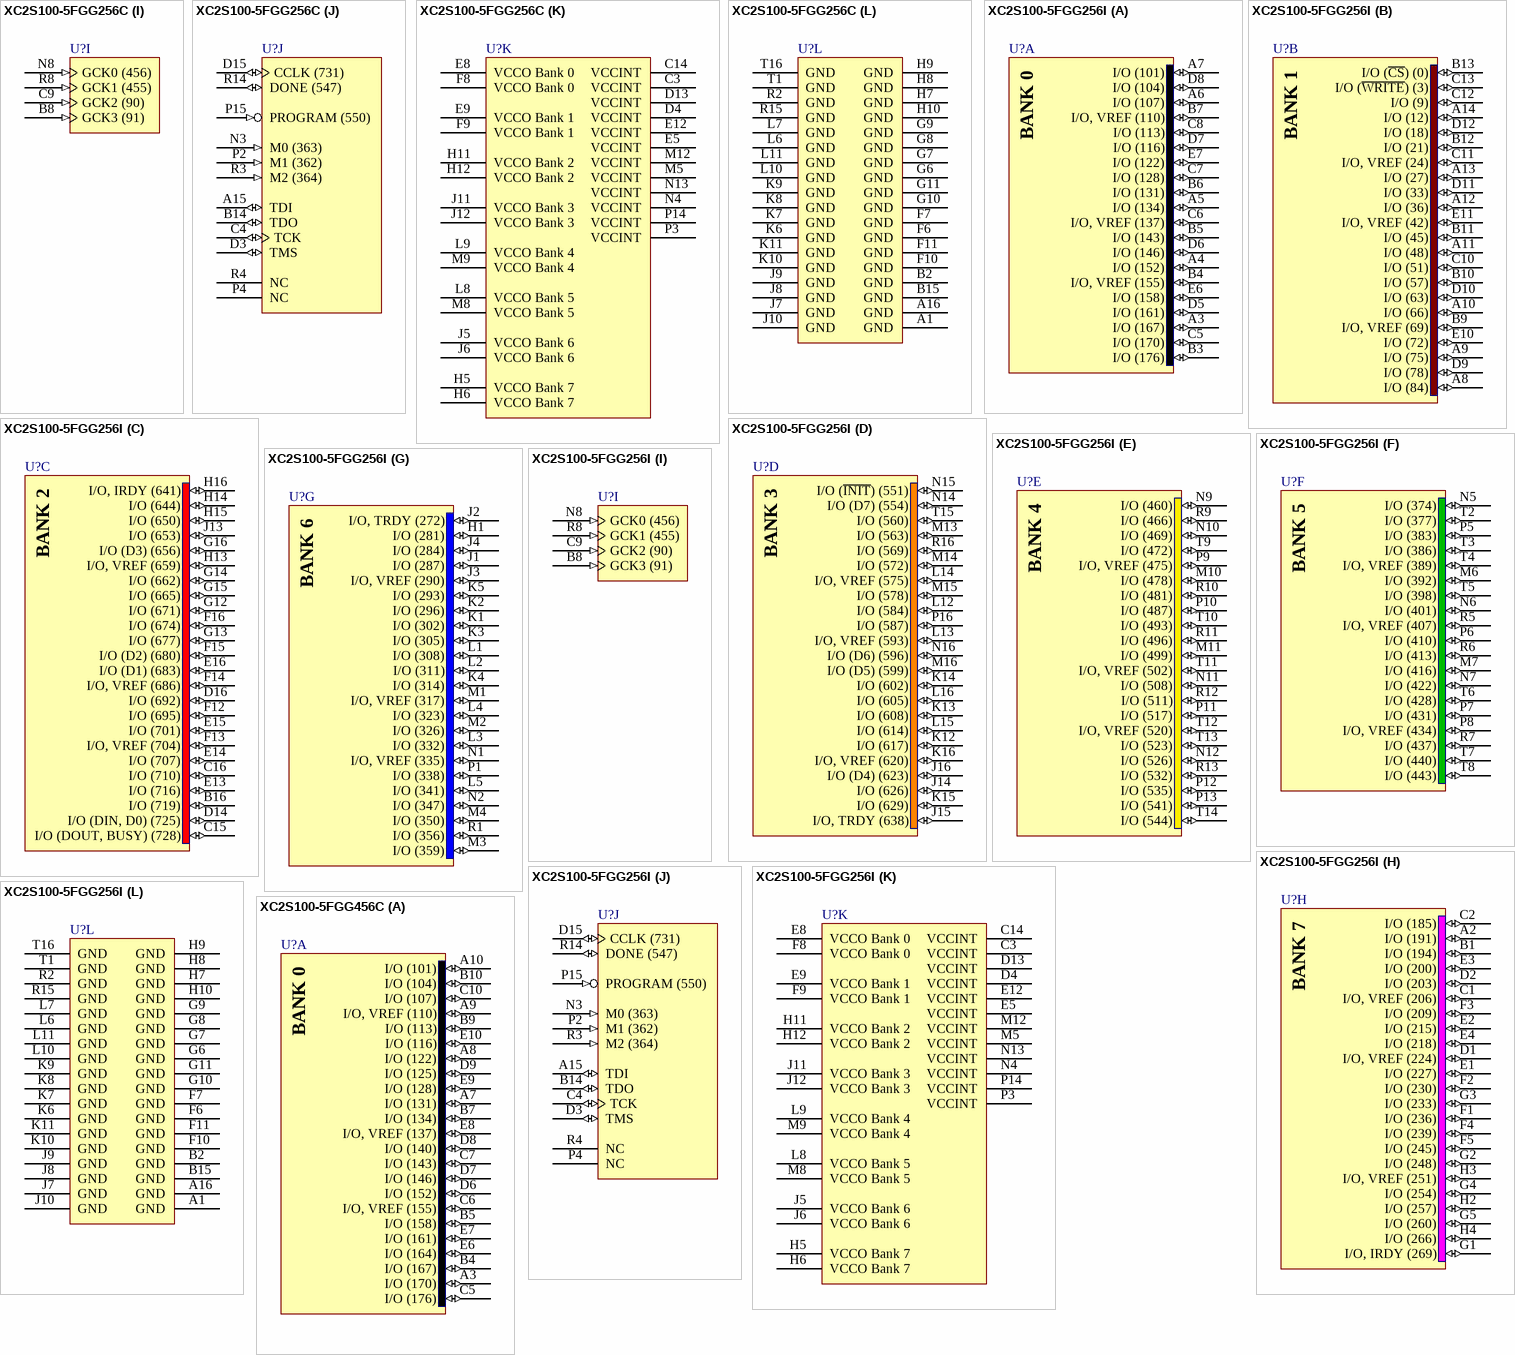
[diagram p31: symbols XC2S100-5FGG256C to XC2S100-5FGG456C]

## XC2S100-5FGG256C
designator U?
Spartan-II 2.5V FPGA, 176 User I/Os, 256-Ball FBGA, Standard Performance, Commercial Grade, Pb-Free; DatasheetVersion: ver2.8, Jun-2008; PackageVersion: ver1.2.1, Apr-2005; PackageReference: FGG256; PackageDescription: 256-Ball Fine Pitch Ball Grid Array (FGG256) - Pb-Free; Code_JEDEC: MO-151-AAF-1; Code_IPC: BGA100P16X16-256; ComponentLink1Description: Manufacturer URL; ComponentLink1URL: http://www.xilinx.com/; ComponentLink2Description: Spartan-II Datasheet; ComponentLink2URL: http://www.xilinx.com/support/documentation/data_sheets/ds001.pdf; ComponentLink3Description: FGG256 Package Drawing; ComponentLink3URL: http://www.xilinx.com/support/documentation/package_specs/fg256.pdf; ComponentLink4Description: Spartan-II Documents; ComponentLink4URL: http://www.xilinx.com/support/documentation/spartan-ii.htm
footprint FGG256 (BGA, 256-Leads, Body 17x17mm, Pitch 1mm)
part A pins: A3 I/O (167) (io), A4 I/O (152) (io), A5 I/O (134) (io), A6 I/O (107) (io), A7 I/O (101) (io), B3 I/O (176) (io), B4 I/O, VREF (155) (io), B5 I/O (143) (io), B6 I/O (131) (io), B7 I/O, VREF (110) (io), C5 I/O (170) (io), C6 I/O, VREF (137) (io), C7 I/O (128) (io), C8 I/O (113) (io), D5 I/O (161) (io), D6 I/O (146) (io), D7 I/O (116) (io), D8 I/O (104) (io), E6 I/O (158) (io), E7 I/O (122) (io)
part B pins: A8 I/O (84) (io), A9 I/O (75) (io), A10 I/O (66) (io), A11 I/O (48) (io), A12 I/O (36) (io), A13 I/O (27) (io), A14 I/O (12) (io), B9 I/O, VREF (69) (io), B10 I/O (57) (io), B11 I/O (45) (io), B12 I/O (21) (io), B13 I/O (~{CS}) (0) (io), C10 I/O (51) (io), C11 I/O, VREF (24) (io), C12 I/O (9) (io), C13 I/O (~{WRITE}) (3) (io), D9 I/O (78) (io), D10 I/O (63) (io), D11 I/O (33) (io), D12 I/O (18) (io), E10 I/O (72) (io), E11 I/O, VREF (42) (io)
part C pins: B16 I/O (719) (io), C15 I/O (DOUT, BUSY) (728) (io), C16 I/O (710) (io), D14 I/O (DIN, D0) (725) (io), D16 I/O (692) (io), E13 I/O (716) (io), E14 I/O (707) (io), E15 I/O (701) (io), E16 I/O (D1) (683) (io), F12 I/O (695) (io), F13 I/O, VREF (704) (io), F14 I/O, VREF (686) (io), F15 I/O (D2) (680) (io), F16 I/O (674) (io), G12 I/O (671) (io), G13 I/O (677) (io), G14 I/O (662) (io), G15 I/O (665) (io), G16 I/O (D3) (656) (io), H13 I/O, VREF (659) (io), H14 I/O (644) (io), H15 I/O (650) (io), H16 I/O, IRDY (641) (io), J13 I/O (653) (io)
part D pins: J14 I/O (626) (io), J15 I/O, TRDY (638) (io), J16 I/O (D4) (623) (io), K12 I/O (617) (io), K13 I/O (608) (io), K14 I/O (602) (io), K15 I/O (629) (io), K16 I/O, VREF (620) (io), L12 I/O (584) (io), L13 I/O, VREF (593) (io), L14 I/O, VREF (575) (io), L15 I/O (614) (io), L16 I/O (605) (io), M13 I/O (563) (io), M14 I/O (572) (io), M15 I/O (578) (io), M16 I/O (D5) (599) (io), N14 I/O (D7) (554) (io), N15 I/O (~{INIT}) (551) (io), N16 I/O (D6) (596) (io), P16 I/O (587) (io), R16 I/O (569) (io), T15 I/O (560) (io)
part E pins: M10 I/O (478) (io), M11 I/O (499) (io), N9 I/O (460) (io), N10 I/O (469) (io), N11 I/O (508) (io), N12 I/O (526) (io), P9 I/O, VREF (475) (io), P10 I/O (487) (io), P11 I/O (517) (io), P12 I/O (535) (io), P13 I/O (541) (io), R9 I/O (466) (io), R10 I/O (481) (io), R11 I/O (496) (io), R12 I/O (511) (io), R13 I/O (532) (io), T9 I/O (472) (io), T10 I/O (493) (io), T11 I/O, VREF (502) (io), T12 I/O, VREF (520) (io), T13 I/O (523) (io), T14 I/O (544) (io)
part F pins: M6 I/O (392) (io), M7 I/O (416) (io), N5 I/O (374) (io), N6 I/O (401) (io), N7 I/O (422) (io), P5 I/O (383) (io), P6 I/O (410) (io), P7 I/O (431) (io), P8 I/O, VREF (434) (io), R5 I/O, VREF (407) (io), R6 I/O (413) (io), R7 I/O (437) (io), T2 I/O (377) (io), T3 I/O (386) (io), T4 I/O, VREF (389) (io), T5 I/O (398) (io), T6 I/O (428) (io), T7 I/O (440) (io), T8 I/O (443) (io)
part G pins: H1 I/O (281) (io), J1 I/O (287) (io), J2 I/O, TRDY (272) (io), J3 I/O, VREF (290) (io), J4 I/O (284) (io), K1 I/O (302) (io), K2 I/O (296) (io), K3 I/O (305) (io), K4 I/O (314) (io), K5 I/O (293) (io), L1 I/O (308) (io), L2 I/O (311) (io), L3 I/O (332) (io), L4 I/O (323) (io), L5 I/O (341) (io), M1 I/O, VREF (317) (io), M2 I/O (326) (io), M3 I/O (359) (io), M4 I/O (350) (io), N1 I/O, VREF (335) (io), N2 I/O (347) (io), P1 I/O (338) (io), R1 I/O (356) (io)
part H pins: A2 I/O (191) (io), B1 I/O (194) (io), C1 I/O, VREF (206) (io), C2 I/O (185) (io), D1 I/O, VREF (224) (io), D2 I/O (203) (io), E1 I/O (227) (io), E2 I/O (215) (io), E3 I/O (200) (io), E4 I/O (218) (io), F1 I/O (236) (io), F2 I/O (230) (io), F3 I/O (209) (io), F4 I/O (239) (io), F5 I/O (245) (io), G1 I/O, IRDY (269) (io), G2 I/O (248) (io), G3 I/O (233) (io), G4 I/O (254) (io), G5 I/O (260) (io), H2 I/O (257) (io), H3 I/O, VREF (251) (io), H4 I/O (266) (io)
part I pins: B8 GCK3 (91) (in), C9 GCK2 (90) (in), N8 GCK0 (456) (in), R8 GCK1 (455) (in)
part J pins: A15 TDI (io), B14 TDO (io), C4 TCK (io), D3 TMS (io), D15 CCLK (731) (io), N3 M0 (363) (in), P2 M1 (362) (in), P4 NC, P15 PROGRAM (550) (in), R3 M2 (364) (in), R4 NC, R14 DONE (547) (io)
part K pins: C3 VCCINT (power), C14 VCCINT (power), D4 VCCINT (power), D13 VCCINT (power), E5 VCCINT (power), E8 VCCO Bank 0 (power), E9 VCCO Bank 1 (power), E12 VCCINT (power), F8 VCCO Bank 0 (power), F9 VCCO Bank 1 (power), H5 VCCO Bank 7 (power), H6 VCCO Bank 7 (power), H11 VCCO Bank 2 (power), H12 VCCO Bank 2 (power), J5 VCCO Bank 6 (power), J6 VCCO Bank 6 (power), J11 VCCO Bank 3 (power), J12 VCCO Bank 3 (power), L8 VCCO Bank 5 (power), L9 VCCO Bank 4 (power), M5 VCCINT (power), M8 VCCO Bank 5 (power), M9 VCCO Bank 4 (power), M12 VCCINT (power), N4 VCCINT (power), N13 VCCINT (power), P3 VCCINT (power), P14 VCCINT (power)
part L pins: A1 GND (power), A16 GND (power), B2 GND (power), B15 GND (power), F6 GND (power), F7 GND (power), F10 GND (power), F11 GND (power), G6 GND (power), G7 GND (power), G8 GND (power), G9 GND (power), G10 GND (power), G11 GND (power), H7 GND (power), H8 GND (power), H9 GND (power), H10 GND (power), J7 GND (power), J8 GND (power), J9 GND (power), J10 GND (power), K6 GND (power), K7 GND (power), K8 GND (power), K9 GND (power), K10 GND (power), K11 GND (power), L6 GND (power), L7 GND (power), L10 GND (power), L11 GND (power), R2 GND (power), R15 GND (power), T1 GND (power), T16 GND (power)
part A text: BANK 0
part B text: BANK 1
part C text: BANK 2
part D text: BANK 3
part E text: BANK 4
part F text: BANK 5
part G text: BANK 6
part H text: BANK 7